# Altium footprint library Fedor's_pcb.PcbLib: 174 footprints (part 12 of 14)
Each footprint in its own frame and in the unit in brackets; x right, y up, seen from the top. Pads: shape width x height; smd on the part's side, far side on the other; paste and mask are expansions set on the pad; w line width, h text height; cw(c..) or ccw(c..) is an arc to the next point about the centre after c.
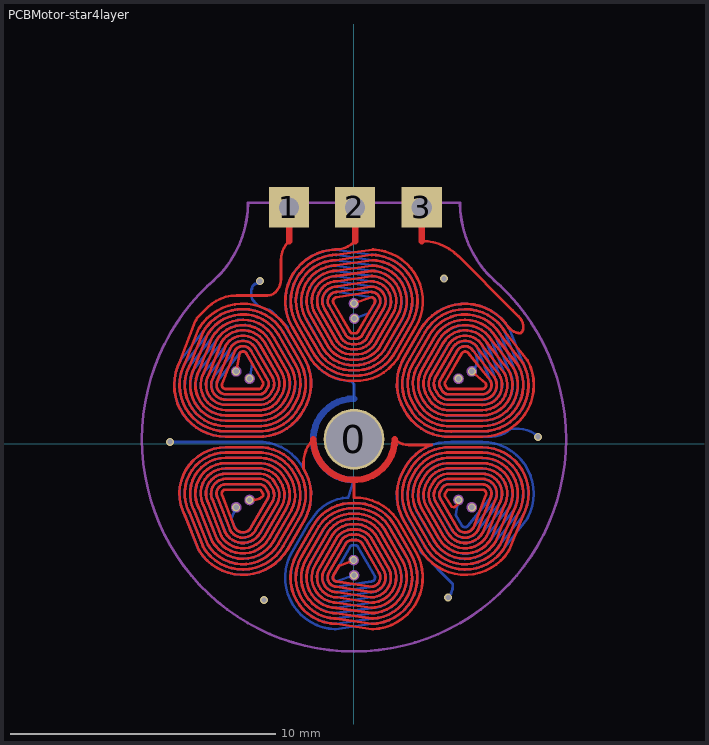
[diagram p11: the footprint, top view; thin cyan lines are the x and y axes]

## PCBMotor-star4layer [mil]
pads (4):
  round 90.55 hole 82.68 mask+3.54: 0(0.51,6.68)
  rect 60x60 hole 30: 1(-96,351) 2(2,351) 3(101,351)
via -154.57,96.62 diameter 11.81 hole 7.87
via -174.37,107.48 diameter 11.81 hole 7.87
via 155.62,96.63 diameter 11.81 hole 7.87
via 175.42,107.48 diameter 11.81 hole 7.87
via 1.08,185.92 diameter 11.81 hole 7.87
via 0.58,208.5 diameter 11.81 hole 7.87
via 134.03,245.17 diameter 11.81 hole 7.87
via -139.2,241.51 diameter 11.81 hole 7.87
via 273.82,10.38 diameter 11.81 hole 7.87
via -272.77,2.82 diameter 11.81 hole 7.87
via 140.25,-228.31 diameter 11.81 hole 7.87
via -132.98,-231.97 diameter 11.81 hole 7.87
via 0.47,-195.3 diameter 11.81 hole 7.87
via -0.03,-172.72 diameter 11.81 hole 7.87
via -174.37,-94.28 diameter 11.81 hole 7.87
via -154.57,-83.43 diameter 11.81 hole 7.87
via 175.42,-94.28 diameter 11.81 hole 7.87
via 155.62,-83.42 diameter 11.81 hole 7.87
Top Layer:
  lines w3.94: -229.57,-95.55 -229.46,-95.76 ; -229.49,108.89 -229.38,109.1 ; -202.24,-79.92 ccw(c0.51,6.69) -202,-80.49 ; -202.15,93.26 cw(c0.59,6.65) -201.91,93.83 ; -174.37,107.48 -169.13,134.74 cw(c-164.41,131.18) -159.3,134.13 -134.63,91.36 cw(c-138.04,89.39) -134.66,87.37 ccw(c0.52,6.6) -135.83,85.38 ccw(c0.52,6.6) -136.98,83.36 cw(c-140.41,85.28) -140.41,81.35 -189.79,81.35 cw(c-189.79,87.25) -195.23,89.56 -176.1,138.55 cw(c0.59,6.65) -175.69,139.1 cw(c-164.41,131.18) -152.48,138.07 -126.72,93.34 cw(c-138.04,89.39) -129.05,81.45 cw(c-140.41,85.28) -138.17,73.51 -189.79,73.51 cw(c-189.79,87.25) -203.13,90.57 cw(c-197.4,89.14) -202.9,91.29 -183.41,141.21 cw(c-177.91,139.06) -183.02,142.03 cw(c-164.41,131.18) -145.75,141.93 -119.5,96.98 cw(c-138.04,89.39) -121.98,77.41 cw(c-140.41,85.28) -137.78,65.41 -189.79,65.41 cw(c-189.79,87.25) -208.66,98.26 ccw(c-213.76,101.24) -208.26,99.09 -190.21,145.31 cw(c-184.71,143.16) -189.8,146.16 cw(c-164.41,131.18) -188.52,148.13 cw(c0.52,6.6) -187.31,149.74 cw(c-164.41,131.18) -138.88,145.91 -112.84,100.74 cw(c-138.04,89.39) -115.38,73.56 ; -154.57,-83.43 -149.09,-83.43 ccw(c-149.09,-62.67) -134.41,-77.35 ccw(c-138.13,-76.05) -134.75,-74.03 cw(c0.44,6.74) -135.92,-72.03 cw(c0.44,6.74) -137.06,-70.02 ccw(c-140.5,-71.94) -140.5,-68 -189.88,-68 ccw(c-189.88,-73.91) -195.32,-76.21 -176.19,-125.21 ccw(c0.51,6.69) -175.77,-125.76 ccw(c-164.5,-117.84) -152.56,-124.72 -126.8,-80 ccw(c-138.13,-76.05) -129.14,-68.11 ccw(c-140.5,-71.94) -138.26,-60.16 -189.88,-60.16 ccw(c-189.88,-73.91) -203.22,-77.22 ccw(c-197.49,-75.8) -202.99,-77.95 -202.22,-79.91 -202,-80.49 ; -115.52,-60.13 ccw(c0.44,6.74) -115.47,-60.22 ; -115.43,73.47 cw(c0.53,6.6) -115.38,73.56 ; -115.41,-60.31 cw(c0.44,6.74) -115.47,-60.22 ; -115.33,73.65 ccw(c0.53,6.6) -115.38,73.56 ; -95.85,301.17 ccw(c-66.59,271.92) -107.97,271.92 -107.97,266.17 -107.97,244.49 cw(c-135.28,244.49) -115.97,225.17 cw(c-128.04,237.24) -128.04,220.17 -173.97,220.17 ccw(c-173.97,159.46) -216.9,202.39 -232.64,186.65 -233.97,183.17 -234.98,182.17 -257.38,123.54 ccw(c-189.79,87.25) -189.79,10.54 -143.8,10.54 ccw(c-140.41,85.28) -74.47,49.93 ccw(c-138.04,89.39) -74.99,129.66 -97.95,169.53 ccw(c-164.41,131.18) -229.34,172.08 ccw(c-224.35,168.93) -229.83,171.13 -249.94,120.81 cw(c-255.42,123.01) -250.24,120.18 ccw(c-189.79,87.25) -252.43,115.79 ccw(c0.52,6.6) -253.87,112.41 ccw(c-189.79,87.25) -189.79,18.42 -143.71,18.42 ccw(c-140.41,85.28) -81.3,53.87 ccw(c-138.04,89.39) -81.76,125.65 -104.82,165.54 ccw(c-164.41,131.18) -218.13,174.14 ccw(c0.52,6.6) -220.37,171.19 -222.94,167.29 ccw(c-218.01,164.04) -223.49,166.23 -243.48,116.21 cw(c-248.97,118.4) -243.74,115.65 ccw(c-189.79,87.25) -244.9,113.32 ccw(c0.52,6.6) -246.86,108.71 ccw(c-189.79,87.25) -189.79,26.29 -137.22,26.29 ccw(c-140.41,85.28) -88.11,57.8 ccw(c-138.04,89.39) -85.34,116.1 -111.6,161.64 ccw(c-164.41,131.18) -211.51,169.9 ccw(c0.52,6.6) -214.53,165.9 -215.79,163.98 ccw(c-210.86,160.73) -216.35,162.92 -236.39,112.79 cw(c-241.87,114.98) -236.66,112.2 ccw(c-189.79,87.25) -237.97,109.57 ccw(c0.52,6.6) -239.33,106.34 ccw(c-189.79,87.25) -189.79,34.16 -137.33,34.16 ccw(c-140.41,85.28) -94.93,61.74 ccw(c-138.04,89.39) -92.21,112.25 -118.55,157.61 ccw(c-164.41,131.18) -205.44,164.63 ccw(c0.52,6.6) -207.62,161.74 ccw(c-164.41,131.18) -209.15,159.46 ccw(c-204.15,156.3) -209.64,158.5 -229.25,109.43 cw(c-234.73,111.63) -229.54,108.81 ccw(c-189.79,87.25) -231,105.88 ccw(c0.52,6.6) -231.83,103.9 ccw(c-189.79,87.25) -189.79,42.03 -137.43,42.03 ccw(c-140.41,85.28) -101.74,65.68 ccw(c-138.04,89.39) -99.08,108.41 -125.44,153.63 ccw(c-164.41,131.18) -199.45,159.38 ccw(c0.52,6.6) -200.86,157.51 ccw(c-164.41,131.18) -202.6,154.93 ccw(c-197.58,151.81) -203.07,154 -222.54,105.29 cw(c-228.02,107.48) -222.8,104.72 ccw(c-189.79,87.25) -223.74,102.81 ccw(c0.52,6.6) -224.59,100.82 ccw(c-189.79,87.25) -189.79,49.91 -137.54,49.91 ccw(c-140.41,85.28) -108.56,69.62 ccw(c-138.04,89.39) -105.96,104.57 -132.04,149.85 ccw(c-164.41,131.18) -193.58,154.54 ccw(c0.52,6.6) -194.88,152.83 -195.87,151.33 ccw(c-190.95,148.07) -196.45,150.22 -215.03,102.61 cw(c-220.53,104.76) -215.4,101.84 ccw(c-189.79,87.25) -216.52,99.67 ccw(c0.52,6.6) -217.31,97.81 ccw(c-189.79,87.25) -189.79,57.78 -137.65,57.78 ccw(c-140.41,85.28) -115.38,73.56 ; -59.86,6.72 ccw(c-24.37,-28.77) -74.56,-28.77 -74.56,-36.59 cw(c-138.13,-76.05) -75.07,-116.32 -98.03,-156.19 cw(c-164.5,-117.84) -229.43,-158.74 cw(c-224.43,-155.59) -229.92,-157.78 -250.03,-107.47 ccw(c-255.51,-109.66) -250.32,-106.84 cw(c-189.88,-73.91) -252.52,-102.45 cw(c0.44,6.74) -253.95,-99.06 cw(c-189.88,-73.91) -189.88,-5.08 -143.79,-5.08 cw(c-140.5,-71.94) -81.38,-40.53 cw(c-138.13,-76.05) -81.85,-112.31 -104.9,-152.2 cw(c-164.5,-117.84) -218.22,-160.8 cw(c0.44,6.74) -220.45,-157.84 -223.02,-153.94 cw(c-218.09,-150.7) -223.57,-152.89 -243.57,-102.87 ccw(c-249.05,-105.06) -243.83,-102.31 cw(c-189.88,-73.91) -244.99,-99.98 cw(c0.44,6.74) -246.94,-95.37 cw(c-189.88,-73.91) -189.88,-12.94 -137.31,-12.94 cw(c-140.5,-71.94) -88.19,-44.46 cw(c-138.13,-76.05) -85.42,-102.76 -111.68,-148.3 cw(c-164.5,-117.84) -211.6,-156.55 cw(c0.44,6.74) -214.61,-152.56 -215.88,-150.64 cw(c-210.95,-147.39) -216.43,-149.58 -236.47,-99.44 ccw(c-241.95,-101.64) -236.74,-98.86 cw(c-189.88,-73.91) -238.05,-96.22 cw(c0.44,6.74) -239.42,-93 cw(c-189.88,-73.91) -189.88,-20.82 -137.41,-20.82 cw(c-140.5,-71.94) -95.01,-48.4 cw(c-138.13,-76.05) -92.29,-98.91 -118.64,-144.26 cw(c-164.5,-117.84) -205.52,-151.28 cw(c0.44,6.74) -207.7,-148.4 cw(c-164.5,-117.84) -209.23,-146.12 cw(c-204.24,-142.96) -209.72,-145.15 -229.33,-96.09 ccw(c-234.82,-98.28) -229.62,-95.47 cw(c-189.88,-73.91) -231.08,-92.53 cw(c0.44,6.74) -231.92,-90.56 cw(c-189.88,-73.91) -189.88,-28.69 -137.51,-28.69 cw(c-140.5,-71.94) -101.83,-52.34 cw(c-138.13,-76.05) -99.17,-95.07 -125.52,-140.28 cw(c-164.5,-117.84) -199.54,-146.03 cw(c0.44,6.74) -200.95,-144.17 cw(c-164.5,-117.84) -202.68,-141.58 cw(c-197.67,-138.47) -203.15,-140.66 -222.62,-91.95 ccw(c-228.1,-94.14) -222.89,-91.38 cw(c-189.88,-73.91) -223.83,-89.47 cw(c0.44,6.74) -224.67,-87.48 cw(c-189.88,-73.91) -189.88,-36.56 -137.62,-36.57 cw(c-140.5,-71.94) -108.65,-56.28 cw(c-138.13,-76.05) -106.04,-91.23 -132.13,-136.51 cw(c-164.5,-117.84) -193.67,-141.2 cw(c0.44,6.74) -194.96,-139.48 -195.95,-137.99 cw(c-191.03,-134.73) -196.53,-136.87 -215.12,-89.27 ccw(c-220.62,-91.42) -215.49,-88.5 cw(c-189.88,-73.91) -216.6,-86.33 cw(c0.44,6.74) -217.39,-84.47 cw(c-189.88,-73.91) -189.88,-44.44 -137.74,-44.44 cw(c-140.5,-71.94) -115.47,-60.22 ; -31.3,288.18 -27.15,288.42 ; -26.03,-243.74 -25.79,-243.76 ; -25.89,256.94 -25.66,256.96 ; -25.76,225.46 cw(c0.6,6.57) -25.15,225.53 ; -0.03,-172.72 -21.17,-180.78 -30.04,-195.59 ccw(c-24.92,-198.55) -25.65,-204.41 26.35,-212.34 ccw(c0.47,6.63) 27.04,-212.26 ccw(c25.81,-198.53) 37.74,-191.64 11.89,-146.97 ccw(c2.8,-154.8) 0.42,-143.04 ccw(c-1.94,-154.8) -11.02,-146.97 -36.83,-191.67 ccw(c-24.92,-198.55) -28.72,-211.76 ccw(c-27.09,-206.08) -27.98,-211.92 -25.89,-212.24 ; 0.03,-53.83 0.41,-54.21 0.41,-80.01 cw(c2.8,-154.8) 69.21,-120.33 92.26,-160.14 cw(c25.81,-198.53) 28.77,-275.21 cw(c28.54,-269.31) 27.69,-275.16 -25.93,-267.42 ccw(c-26.77,-273.26) -26.63,-267.36 cw(c-24.92,-198.55) -31.53,-267.06 cw(c0.39,6.6) -35.18,-266.61 cw(c-24.92,-198.55) -84.54,-164.13 -61.49,-124.22 cw(c-1.94,-154.8) 0.42,-87.89 cw(c2.8,-154.8) 62.34,-124.19 85.36,-164.1 cw(c25.81,-198.53) 36.16,-266.54 cw(c0.39,6.6) 32.48,-266.99 27.82,-267.27 cw(c27.47,-261.37) 26.63,-267.22 -26.69,-259.52 ccw(c-27.54,-265.37) -27.3,-259.47 cw(c-24.92,-198.55) -29.9,-259.31 cw(c0.39,6.6) -34.87,-258.7 cw(c-24.92,-198.55) -77.72,-168.06 -51.44,-122.54 cw(c-1.94,-154.8) 0.42,-95.76 cw(c2.8,-154.8) 52.29,-122.51 78.6,-168.02 cw(c25.81,-198.53) 35.79,-258.68 cw(c0.39,6.6) 30.82,-259.29 28.52,-259.43 cw(c28.18,-253.53) 27.33,-259.38 -26.11,-251.66 ccw(c-26.95,-257.51) -26.75,-251.61 cw(c-24.92,-198.55) -29.69,-251.42 cw(c0.39,6.6) -33.16,-251 cw(c-24.92,-198.55) -70.9,-172 -44.67,-126.56 cw(c-1.94,-154.8) 0.42,-103.64 cw(c2.8,-154.8) 45.52,-126.54 71.63,-172.03 cw(c25.81,-198.53) 34.26,-250.78 cw(c0.39,6.6) 30.67,-251.23 cw(c25.81,-198.53) 27.94,-251.41 cw(c27.7,-245.51) 26.85,-251.35 -25.44,-243.81 ccw(c-26.28,-249.65) -26.13,-243.75 cw(c-24.92,-198.55) -29.4,-243.54 cw(c0.39,6.6) -31.52,-243.28 cw(c-24.92,-198.55) -64.08,-175.94 -37.9,-130.59 cw(c-1.94,-154.8) 0.42,-111.51 cw(c2.8,-154.8) 38.76,-130.57 64.74,-176 cw(c25.81,-198.53) 32.71,-242.97 cw(c0.39,6.6) 30.39,-243.26 cw(c25.81,-198.53) 27.28,-243.47 cw(c27.09,-237.57) 26.25,-243.42 -25.67,-235.92 ccw(c-26.52,-241.77) -26.3,-235.87 cw(c-24.92,-198.55) -28.42,-235.73 cw(c0.39,6.6) -30.57,-235.46 cw(c-24.92,-198.55) -57.27,-179.87 -31.14,-134.62 cw(c-1.94,-154.8) 0.42,-119.38 cw(c2.8,-154.8) 31.99,-134.6 58.17,-179.83 cw(c25.81,-198.53) 31.45,-235.47 cw(c0.39,6.6) 29.32,-235.74 27.53,-235.85 cw(c27.17,-229.95) 26.28,-235.79 -24.24,-228.08 ccw(c-25.13,-233.92) -25.1,-228.02 cw(c-24.92,-198.55) -27.53,-227.9 cw(c0.39,6.6) -29.53,-227.65 cw(c-24.92,-198.55) -50.45,-183.81 -24.38,-138.66 cw(c-1.94,-154.8) 0.43,-127.26 ; 0.32,-127.26 ccw(c0.39,6.6) 0.43,-127.26 ; 0.46,140.46 cw(c0.53,6.6) 0.56,140.46 ; 0.53,-127.26 cw(c0.39,6.6) 0.43,-127.26 ; 0.58,208.5 26.68,217.59 cw(c25.95,211.73) 31.06,208.78 6.35,166.03 cw(c2.94,168) 2.88,164.06 ccw(c0.53,6.6) 0.57,164.08 ccw(c0.53,6.6) -1.75,164.06 cw(c-1.8,168) -5.21,166.03 -29.9,208.79 cw(c-24.79,211.75) -25.51,217.61 26.48,225.54 cw(c0.6,6.57) 27.17,225.46 cw(c25.95,211.73) 37.88,204.84 12.02,160.17 cw(c2.94,168) 0.56,156.24 cw(c-1.8,168) -10.88,160.17 -36.69,204.87 cw(c-24.79,211.75) -28.59,224.96 cw(c-26.96,219.28) -27.85,225.12 25.13,233.2 cw(c26.02,227.36) 26.04,233.27 cw(c25.95,211.73) 44.59,200.95 18.78,155.73 cw(c2.94,168) 0.6,148.1 cw(c-1.8,168) -17.69,155.78 -43.7,200.83 cw(c-24.79,211.75) -24.69,233.59 ccw(c-24.66,239.49) -23.77,233.65 25.28,241.14 cw(c26.17,235.3) 26.23,241.2 cw(c25.95,211.73) 28.57,241.09 cw(c0.53,6.6) 30.57,240.84 cw(c25.95,211.73) 51.46,196.98 25.37,151.84 cw(c2.94,168) 0.56,140.46 ; 0.66,140.46 ccw(c0.53,6.6) 0.56,140.46 ; 2.57,301.17 1.83,300.43 cw(c-27.15,329.41) -27.15,288.42 ; 61.05,6.72 ccw(c81.68,27.35) 81.68,-1.83 116.03,-1.83 ; 101,301.17 cw(c101,223.84) 155.68,278.52 236.03,198.17 244.96,189.24 cw(c227.89,172.17) 252.03,172.17 cw(c242.37,172.17) 249.2,165.34 248.03,164.17 cw(c248.03,186.81) 232.02,170.8 229.61,173.22 ; 115.48,-1.83 ccw(c141.54,-71.96) 75.6,-36.61 ccw(c139.16,-76.07) 76.11,-116.34 99.07,-156.21 ccw(c165.54,-117.86) 230.47,-158.76 ccw(c225.47,-155.61) 230.95,-157.81 251.06,-107.5 cw(c256.55,-109.69) 251.36,-106.86 ccw(c190.92,-73.93) 253.55,-102.47 ccw(c0.6,6.72) 254.99,-99.09 ccw(c190.92,-73.93) 190.92,-5.1 144.83,-5.1 ccw(c141.54,-71.96) 82.42,-40.55 ccw(c139.16,-76.07) 82.88,-112.33 105.94,-152.22 ccw(c165.54,-117.86) 219.26,-160.83 ; 116.42,73.59 cw(c0.53,6.6) 116.47,73.5 ; 116.45,-60.33 ccw(c0.6,6.72) 116.5,-60.24 ; 116.52,73.41 ccw(c0.53,6.6) 116.47,73.5 ; 116.55,-60.15 cw(c0.6,6.72) 116.5,-60.24 ; 154.06,-84.62 cw(c156.28,-85.9) 155.62,-83.42 156.28,-85.9 153.81,-90.18 cw(c146.23,-85.81) 148.49,-94.26 145.59,-93.61 135.75,-78.04 cw(c139.16,-76.07) 135.78,-74.05 ccw(c0.6,6.72) 136.96,-72.06 ccw(c0.6,6.72) 138.1,-70.05 cw(c141.54,-71.96) 141.54,-68.03 190.92,-68.03 cw(c190.92,-73.93) 196.35,-76.24 177.23,-125.23 cw(c0.53,6.67) 176.81,-125.78 cw(c165.54,-117.86) 153.6,-124.75 127.84,-80.02 cw(c139.16,-76.07) 130.18,-68.13 cw(c141.54,-71.96) 139.3,-60.19 190.92,-60.19 cw(c190.92,-73.93) 204.26,-77.25 cw(c198.52,-75.82) 204.03,-77.97 184.54,-127.89 cw(c179.04,-125.74) 184.14,-128.71 cw(c165.54,-117.86) 146.88,-128.62 120.62,-83.66 cw(c139.16,-76.07) 123.1,-64.1 cw(c141.54,-71.96) 138.9,-52.09 190.92,-52.09 cw(c190.92,-73.93) 209.78,-84.94 ccw(c214.88,-87.92) 209.38,-85.77 191.33,-131.99 cw(c185.83,-129.84) 190.92,-132.84 cw(c165.54,-117.86) 189.65,-134.81 cw(c0.6,6.72) 188.43,-136.42 cw(c165.54,-117.86) 140,-132.59 113.96,-87.42 cw(c139.16,-76.07) 116.5,-60.24 ; 175.42,107.48 196.33,89.45 cw(c190.89,87.15) 190.88,81.24 141.5,81.27 cw(c141.51,85.21) 138.07,83.29 ccw(c0.53,6.6) 136.93,85.3 ccw(c0.53,6.6) 135.76,87.3 cw(c139.14,89.31) 135.73,91.28 160.42,134.05 cw(c165.53,131.1) 170.25,134.65 203.11,93.59 cw(c0.54,6.52) 203.38,92.95 cw(c190.89,87.15) 190.88,73.37 139.27,73.43 cw(c141.51,85.21) 130.14,81.39 cw(c139.14,89.31) 127.82,93.26 153.63,137.97 cw(c165.53,131.1) 175.07,140.99 cw(c170.97,136.74) 175.58,140.43 209.07,98.59 cw(c204.46,94.9) 209.58,97.83 cw(c190.89,87.15) 190.87,65.61 138.81,65.35 cw(c141.51,85.21) 123.1,77.28 cw(c139.14,89.31) 120.61,96.97 146.62,142.02 cw(c165.53,131.1) 184.5,141.93 ccw(c189.62,144.85) 185.01,141.16 216.02,102.43 cw(c211.41,98.74) 216.55,101.64 cw(c190.89,87.15) 217.62,99.56 cw(c0.53,6.6) 218.41,97.7 cw(c190.89,87.15) 190.87,57.68 138.73,57.71 cw(c141.51,85.21) 116.47,73.5 ; 176.92,138.79 cw(c0.54,6.52) 177.29,138.3 ; 203.03,-80.51 ccw(c0.53,6.67) 203.28,-79.94 ; 204.12,154.65 204.25,154.45 ; 219.26,-160.82 ccw(c0.6,6.72) 221.49,-157.87 224.06,-153.97 ccw(c219.13,-150.72) 224.61,-152.91 244.61,-102.89 cw(c250.09,-105.08) 244.86,-102.33 ccw(c190.92,-73.93) 246.03,-100 ccw(c0.6,6.72) 247.98,-95.39 ccw(c190.92,-73.93) 190.92,-12.97 138.35,-12.97 ccw(c141.54,-71.96) 89.23,-44.49 ccw(c139.16,-76.07) 86.46,-102.78 112.72,-148.32 ccw(c165.54,-117.86) 212.63,-156.58 ccw(c0.6,6.72) 215.65,-152.58 216.92,-150.66 ccw(c211.98,-147.41) 217.47,-149.6 237.51,-99.47 cw(c242.99,-101.66) 237.78,-98.88 ccw(c190.92,-73.93) 239.09,-96.25 ccw(c0.6,6.72) 240.46,-93.03 ccw(c190.92,-73.93) 190.92,-20.84 138.45,-20.84 ccw(c141.54,-71.96) 96.05,-48.42 ccw(c139.16,-76.07) 93.33,-98.93 119.67,-144.29 ccw(c165.54,-117.86) 206.56,-151.31 ccw(c0.6,6.72) 208.74,-148.42 ccw(c165.54,-117.86) 210.27,-146.14 ccw(c205.28,-142.99) 210.76,-145.18 230.37,-96.12 cw(c235.85,-98.31) 230.66,-95.49 ccw(c190.92,-73.93) 232.12,-92.56 ccw(c0.6,6.72) 232.96,-90.58 ccw(c190.92,-73.93) 190.92,-28.71 138.55,-28.71 ccw(c141.54,-71.96) 102.87,-52.36 ccw(c139.16,-76.07) 100.21,-95.09 126.56,-140.31 ccw(c165.54,-117.86) 200.58,-146.06 ccw(c0.6,6.72) 201.98,-144.2 ccw(c165.54,-117.86) 203.72,-141.61 ccw(c198.7,-138.49) 204.19,-140.68 223.66,-91.97 cw(c229.14,-94.16) 223.92,-91.4 ccw(c190.92,-73.93) 224.86,-89.49 ccw(c0.6,6.72) 225.71,-87.5 ccw(c190.92,-73.93) 190.92,-36.59 138.66,-36.59 ccw(c141.54,-71.96) 109.68,-56.3 ccw(c139.16,-76.07) 107.08,-91.25 133.16,-136.53 ccw(c165.54,-117.86) 194.71,-141.22 ccw(c0.6,6.72) 196,-139.51 196.99,-138.01 ccw(c192.07,-134.75) 197.57,-136.9 216.15,-89.29 cw(c221.66,-91.44) 216.52,-88.52 ccw(c190.92,-73.93) 217.64,-86.35 ccw(c0.6,6.72) 218.43,-84.49 ccw(c190.92,-73.93) 190.92,-44.46 138.77,-44.46 ccw(c141.54,-71.96) 116.5,-60.24 ; 228.47,174.95 230.75,171.48 ccw(c165.53,131.1) 99.1,169.45 76.1,129.62 ccw(c139.14,89.31) 75.55,49.89 ccw(c141.51,85.21) 144.86,10.46 190.86,10.41 ccw(c190.89,87.15) 258.77,122.93 ccw(c253.55,120.18) 258.19,123.83 224.67,166.4 cw(c229.31,170.06) 224.27,166.98 ccw(c165.53,131.1) 221.57,171.07 ccw(c0.53,6.6) 219.35,174.01 ccw(c165.53,131.1) 105.92,165.51 82.88,125.6 ccw(c139.14,89.31) 82.37,53.82 ccw(c141.51,85.21) 144.77,18.34 190.84,18.36 ccw(c190.89,87.15) 254.95,112.19 ccw(c0.53,6.6) 253.51,115.61 251.41,119.78 ccw(c246.14,117.13) 250.78,120.79 217.45,163.11 cw(c222.09,166.77) 217.1,163.62 ccw(c165.53,131.1) 215.66,165.79 ccw(c0.53,6.6) 212.65,169.78 ccw(c165.53,131.1) 112.73,161.58 86.45,116.05 ccw(c139.14,89.31) 89.19,57.76 ccw(c141.51,85.21) 138.29,26.21 190.86,26.18 ccw(c190.89,87.15) 247.96,108.58 ccw(c0.53,6.6) 246.01,113.19 244.98,115.25 ccw(c239.7,112.6) 244.34,116.25 210.94,158.68 cw(c215.58,162.33) 210.57,159.2 ccw(c165.53,131.1) 208.94,161.66 ccw(c0.53,6.6) 206.84,164.45 ccw(c165.53,131.1) 119.55,157.64 93.32,112.2 ccw(c139.14,89.31) 96.01,61.69 ccw(c141.51,85.21) 138.39,34.09 190.84,34.22 ccw(c190.89,87.15) 240.36,105.96 ccw(c0.53,6.6) 238.95,109.29 ccw(c190.89,87.15) 237.74,111.75 ccw(c232.51,109) 237.15,112.66 204.47,154.17 cw(c209.11,157.83) 204.08,154.74 ccw(c165.53,131.1) 202.26,157.47 ccw(c0.53,6.6) 200.97,159.18 ccw(c165.53,131.1) 126.37,153.7 100.19,108.36 ccw(c139.14,89.31) 102.83,65.63 ccw(c141.51,85.21) 138.5,41.96 190.84,42.18 ccw(c190.89,87.15) 232.82,103.4 ccw(c0.53,6.6) 231.91,105.55 ccw(c190.89,87.15) 230.54,108.35 ccw(c225.33,105.56) 229.97,109.22 197.52,150.43 cw(c202.16,154.09) 197.16,150.95 ccw(c165.53,131.1) 195.98,152.71 ccw(c0.53,6.6) 194.68,154.44 ccw(c165.53,131.1) 133.19,149.77 107.06,104.51 ccw(c139.14,89.31) 109.65,69.56 ccw(c141.51,85.21) 138.61,49.83 190.87,49.78 ccw(c190.89,87.15) 225.7,100.73 ccw(c0.53,6.6) 224.86,102.71 224.06,104.32 ccw(c218.78,101.68) 223.39,105.37 191.45,145.27 cw(c196.06,148.96) 190.97,145.98 ccw(c165.53,131.1) 189.65,148.03 ccw(c0.53,6.6) 188.43,149.64 ccw(c165.53,131.1) 140.01,145.83 113.94,100.67 ccw(c139.14,89.31) 116.47,73.5 ; 230.5,-95.78 230.61,-95.57 ; -202,-80.49 -183.5,-127.86 ccw(c-178,-125.72) -183.1,-128.69 ccw(c-164.5,-117.84) -145.84,-128.59 -119.58,-83.64 ccw(c-138.13,-76.05) -122.06,-64.07 ccw(c-140.5,-71.94) -137.86,-52.07 -189.88,-52.07 ccw(c-189.88,-73.91) -208.74,-84.92 cw(c-213.84,-87.89) -208.34,-85.75 -190.29,-131.97 ccw(c-184.79,-129.82) -189.88,-132.82 ccw(c-164.5,-117.84) -188.61,-134.79 ccw(c0.44,6.74) -187.39,-136.4 ccw(c-164.5,-117.84) -138.97,-132.56 -112.92,-87.39 ccw(c-138.13,-76.05) -115.47,-60.22 ; -27.15,288.42 ccw(c-24.79,211.75) -91.22,173.39 -68.23,133.56 ccw(c-1.8,168) 0.55,93.21 ccw(c2.94,168) 69.35,133.53 92.39,173.34 ccw(c25.95,211.73) 28.9,288.41 ccw(c28.67,282.51) 27.83,288.36 -25.8,280.62 cw(c-26.64,286.46) -26.49,280.56 ccw(c-24.79,211.75) -31.39,280.26 ccw(c0.53,6.6) -35.04,279.81 ccw(c-24.79,211.75) -84.4,177.33 -61.36,137.42 ccw(c-1.8,168) 0.55,101.09 ccw(c2.94,168) 62.48,137.39 85.5,177.3 ccw(c25.95,211.73) 36.29,279.74 ccw(c0.53,6.6) 32.61,280.19 27.95,280.47 ccw(c27.61,274.57) 26.76,280.42 -26.56,272.72 cw(c-27.4,278.57) -27.17,272.67 ccw(c-24.79,211.75) -29.76,272.51 ccw(c0.53,6.6) -34.73,271.9 ccw(c-24.79,211.75) -77.59,181.26 -51.3,135.74 ccw(c-1.8,168) 0.55,108.96 ccw(c2.94,168) 52.42,135.71 78.73,181.22 ccw(c25.95,211.73) 35.93,271.88 ccw(c0.53,6.6) 30.96,272.49 28.66,272.63 ccw(c28.31,266.73) 27.47,272.58 -25.97,264.86 cw(c-26.81,270.71) -26.61,264.81 ccw(c-24.79,211.75) -29.55,264.62 ccw(c0.53,6.6) -33.02,264.2 ccw(c-24.79,211.75) -70.77,185.2 -44.53,139.76 ccw(c-1.8,168) 0.56,116.84 ccw(c2.94,168) 45.66,139.74 71.76,185.23 ccw(c25.95,211.73) 34.4,263.98 ccw(c0.53,6.6) 30.81,264.43 ccw(c25.95,211.73) 28.07,264.61 ccw(c27.83,258.71) 26.99,264.55 -25.3,257.01 cw(c-26.15,262.85) -25.99,256.95 ccw(c-24.79,211.75) -29.26,256.74 ccw(c0.53,6.6) -31.39,256.48 ccw(c-24.79,211.75) -63.95,189.14 -37.77,143.79 ccw(c-1.8,168) 0.56,124.71 ccw(c2.94,168) 38.89,143.77 64.87,189.2 ccw(c25.95,211.73) 32.84,256.17 ccw(c0.53,6.6) 30.53,256.46 ccw(c25.95,211.73) 27.42,256.67 ccw(c27.22,250.77) 26.38,256.62 -25.54,249.12 cw(c-26.38,254.97) -26.16,249.07 ccw(c-24.79,211.75) -28.28,248.93 ccw(c0.53,6.6) -30.43,248.66 ccw(c-24.79,211.75) -57.13,193.07 -31,147.82 ccw(c-1.8,168) 0.56,132.58 ccw(c2.94,168) 32.13,147.8 58.3,193.03 ccw(c25.95,211.73) 31.59,248.67 ccw(c0.53,6.6) 29.46,248.94 27.67,249.05 ccw(c27.31,243.15) 26.42,248.99 -24.1,241.28 cw(c-24.99,247.12) -24.96,241.22 ccw(c-24.79,211.75) -27.39,241.1 ccw(c0.53,6.6) -29.4,240.86 ccw(c-24.79,211.75) -50.31,197.01 -24.24,151.86 ccw(c-1.8,168) 0.56,140.46 ; -25.9,-212.26 ccw(c0.47,6.63) -25.28,-212.33 ; -25.89,-212.24 -25.28,-212.33 ; -25.28,-212.33 24.99,-220 ccw(c25.88,-214.16) 25.91,-220.07 ccw(c25.81,-198.53) 44.45,-187.75 18.65,-142.53 ccw(c2.8,-154.8) 0.47,-134.9 ccw(c-1.94,-154.8) -17.83,-142.58 -43.84,-187.63 ccw(c-24.92,-198.55) -24.82,-220.39 cw(c-24.79,-226.29) -23.9,-220.45 25.15,-227.94 ccw(c26.04,-222.1) 26.09,-228 ccw(c25.81,-198.53) 28.43,-227.89 ccw(c0.39,6.6) 30.44,-227.64 ccw(c25.81,-198.53) 51.33,-183.78 25.23,-138.64 ccw(c2.8,-154.8) 0.43,-127.26
  lines w9.84: -95.85,301.17 -95.85,351 ; 2.57,301.17 2.57,351 ; 101,301.17 101,351
  lines w10: -59.86,6.72 ccw(c0.6,6.72) 61.05,6.72
Mid-Layer 1:
  lines w3.94: -239.11,106.07 cw(c0.73,6.72) -237.7,109.41 cw(c-189.63,87.27) -236.49,111.87 cw(c-231.26,109.12) -235.9,112.78 -203.21,154.29 ccw(c-207.85,157.94) -202.82,154.86 cw(c-164.28,131.22) -201.01,157.59 cw(c0.73,6.72) -199.72,159.3 cw(c-164.28,131.22) -125.12,153.82 -98.93,108.48 cw(c-137.88,89.43) -101.57,65.75 cw(c-140.25,85.33) -137.25,42.08 -189.58,42.3 cw(c-189.63,87.27) -231.57,103.52 cw(c0.73,6.72) -230.66,105.67 cw(c-189.63,87.27) -229.29,108.47 cw(c-224.08,105.68) -228.72,109.34 -196.27,150.55 ccw(c-200.91,154.21) -195.91,151.07 cw(c-164.28,131.22) -194.73,152.83 cw(c0.73,6.72) -193.42,154.56 cw(c-164.28,131.22) -131.93,149.89 -105.81,104.63 cw(c-137.88,89.43) -108.39,69.68 cw(c-140.25,85.33) -137.36,49.95 -189.61,49.9 cw(c-189.63,87.27) -224.44,100.85 cw(c0.73,6.72) -223.61,102.83 -222.81,104.44 cw(c-217.52,101.8) -222.13,105.49 -190.2,145.39 ccw(c-194.81,149.08) -189.71,146.1 cw(c-164.28,131.22) -188.4,148.15 cw(c0.73,6.72) -187.18,149.76 cw(c-164.28,131.22) -138.75,145.95 -112.68,100.79 cw(c-137.88,89.43) -115.21,73.62 ; -239.11,106.08 ccw(c-189.63,87.27) -189.58,34.34 -137.14,34.2 ccw(c-140.25,85.33) -94.75,61.81 ccw(c-137.88,89.43) -92.06,112.32 -118.3,157.76 ccw(c-164.28,131.22) -205.58,164.57 ccw(c0.73,6.72) -207.69,161.78 ccw(c-164.28,131.22) -209.32,159.32 cw(c-214.33,162.45) -209.69,158.8 -243.09,116.37 ccw(c-238.45,112.72) -243.72,115.37 -244.76,113.31 ccw(c0.73,6.72) -246.71,108.7 ccw(c-189.63,87.27) -189.6,26.3 -137.03,26.33 ccw(c-140.25,85.33) -87.93,57.88 ccw(c-137.88,89.43) -85.19,116.17 -111.48,161.7 ccw(c-164.28,131.22) -211.39,169.9 ccw(c0.73,6.72) -214.41,165.91 ccw(c-164.28,131.22) -215.84,163.74 cw(c-220.84,166.89) -216.2,163.23 -249.52,120.91 ccw(c-244.88,117.25) -250.16,119.9 -252.25,115.73 ccw(c0.73,6.72) -253.7,112.31 ccw(c-189.63,87.27) -189.59,18.48 -143.51,18.46 ccw(c-140.25,85.33) -81.12,53.94 ccw(c-137.88,89.43) -81.62,125.72 -104.66,165.63 ccw(c-164.28,131.22) -218.1,174.13 ccw(c0.73,6.72) -220.31,171.19 ccw(c-164.28,131.22) -223.02,167.1 cw(c-228.06,170.18) -223.42,166.52 -256.93,123.95 ccw(c-252.29,120.3) -257.52,123.05 ccw(c-189.63,87.27) -189.61,10.53 -143.6,10.58 ccw(c-140.25,85.33) -74.29,50.01 ccw(c-137.88,89.43) -74.85,129.74 -97.84,169.57 ccw(c-164.28,131.22) -138.04,203.3 -139.75,204.29 cw(c-126.93,226.49) -151.7,219.86 cw(c-135.21,224.28) -149.99,232.81 -146.03,239.68 -139.2,241.51 ; -203.2,-141.25 -203.07,-141.45 ; -202.99,154.57 -202.86,154.77 ; -176.24,-125.1 ccw(c0.51,6.68) -175.87,-125.59 ; -174.37,-94.28 -195.28,-76.25 cw(c-189.84,-73.95) -189.83,-68.04 -140.45,-68.07 cw(c-140.46,-72.01) -137.02,-70.09 ccw(c0.52,6.6) -135.88,-72.1 ccw(c0.52,6.6) -134.71,-74.1 cw(c-138.09,-76.11) -134.68,-78.08 -159.37,-120.85 cw(c-164.48,-117.9) -169.19,-121.45 -202.06,-80.39 cw(c0.51,6.68) -202.33,-79.75 cw(c-189.84,-73.95) -189.83,-60.17 -138.22,-60.23 cw(c-140.46,-72.01) -129.09,-68.19 cw(c-138.09,-76.11) -126.77,-80.06 -152.58,-124.77 cw(c-164.48,-117.9) -174.02,-127.79 cw(c-169.92,-123.54) -174.53,-127.23 -208.02,-85.39 cw(c-203.41,-81.7) -208.53,-84.63 cw(c-189.84,-73.95) -189.82,-52.41 -137.76,-52.15 cw(c-140.46,-72.01) -122.05,-64.08 cw(c-138.09,-76.11) -119.56,-83.77 -145.57,-128.82 cw(c-164.48,-117.9) -183.44,-128.73 ccw(c-188.57,-131.65) -183.96,-127.96 -214.97,-89.23 cw(c-210.36,-85.54) -215.5,-88.44 cw(c-189.84,-73.95) -216.57,-86.36 cw(c0.52,6.6) -217.36,-84.5 cw(c-189.84,-73.95) -189.82,-44.48 -137.68,-44.51 cw(c-140.46,-72.01) -115.42,-60.3 ; -174.16,107.6 -191.52,95.72 -195.07,89.57 ; -132.98,-231.97 -127.98,-236.97 -120.05,-236.97 ccw(c-120.05,-219.9) -107.98,-231.97 ccw(c-126.11,-213.84) -100.47,-213.84 -100.47,-211.87 cw(c-24.92,-198.55) -91.36,-160.19 -68.36,-120.36 cw(c-1.94,-154.8) 0.41,-80.01 cw(c2.8,-154.8) 69.21,-120.33 92.26,-160.14 cw(c25.81,-198.53) 28.77,-275.21 cw(c28.54,-269.31) 27.69,-275.16 -25.93,-267.42 ccw(c-26.77,-273.26) -26.63,-267.36 cw(c-24.92,-198.55) -31.53,-267.06 cw(c0.39,6.6) -35.18,-266.61 cw(c-24.92,-198.55) -84.54,-164.13 -61.49,-124.22 cw(c-1.94,-154.8) 0.42,-87.89 cw(c2.8,-154.8) 62.34,-124.19 85.36,-164.1 cw(c25.81,-198.53) 36.16,-266.54 cw(c0.39,6.6) 32.48,-266.99 27.82,-267.27 cw(c27.47,-261.37) 26.63,-267.22 -26.69,-259.52 ccw(c-27.54,-265.37) -27.3,-259.47 cw(c-24.92,-198.55) -29.9,-259.31 cw(c0.39,6.6) -34.87,-258.7 cw(c-24.92,-198.55) -77.72,-168.06 -51.44,-122.54 cw(c-1.94,-154.8) 0.42,-95.76 cw(c2.8,-154.8) 52.29,-122.51 78.6,-168.02 cw(c25.81,-198.53) 35.79,-258.68 cw(c0.39,6.6) 30.82,-259.29 28.52,-259.43 cw(c28.18,-253.53) 27.33,-259.38 -26.11,-251.66 ccw(c-26.95,-257.51) -26.75,-251.61 cw(c-24.92,-198.55) -29.69,-251.42 cw(c0.39,6.6) -33.16,-251 cw(c-24.92,-198.55) -70.9,-172 -44.67,-126.56 cw(c-1.94,-154.8) 0.42,-103.64 cw(c2.8,-154.8) 45.52,-126.54 71.63,-172.03 cw(c25.81,-198.53) 34.26,-250.78 cw(c0.39,6.6) 30.67,-251.23 cw(c25.81,-198.53) 27.94,-251.41 cw(c27.7,-245.51) 26.85,-251.35 -25.44,-243.81 ccw(c-26.28,-249.65) -26.13,-243.75 cw(c-24.92,-198.55) -29.4,-243.54 cw(c0.39,6.6) -31.52,-243.28 cw(c-24.92,-198.55) -64.08,-175.94 -37.9,-130.59 cw(c-1.94,-154.8) 0.42,-111.51 cw(c2.8,-154.8) 38.76,-130.57 64.74,-176 cw(c25.81,-198.53) 32.71,-242.97 cw(c0.39,6.6) 30.39,-243.26 cw(c25.81,-198.53) 27.28,-243.47 cw(c27.09,-237.57) 26.25,-243.42 -25.67,-235.92 ccw(c-26.52,-241.77) -26.3,-235.87 cw(c-24.92,-198.55) -28.42,-235.73 cw(c0.39,6.6) -30.57,-235.46 cw(c-24.92,-198.55) -57.27,-179.87 -31.14,-134.62 cw(c-1.94,-154.8) 0.42,-119.38 cw(c2.8,-154.8) 31.99,-134.6 58.17,-179.83 cw(c25.81,-198.53) 31.45,-235.47 cw(c0.39,6.6) 29.32,-235.74 27.53,-235.85 cw(c27.17,-229.95) 26.28,-235.79 -24.24,-228.08 ccw(c-25.13,-233.92) -25.1,-228.02 cw(c-24.92,-198.55) -27.53,-227.9 cw(c0.39,6.6) -29.53,-227.65 cw(c-24.92,-198.55) -50.45,-183.81 -24.38,-138.66 cw(c-1.94,-154.8) 0.43,-127.26 ; -115.47,-60.21 ccw(c0.53,6.6) -115.42,-60.3 ; -115.37,-60.39 cw(c0.52,6.6) -115.42,-60.3 ; -115.26,73.53 cw(c0.73,6.72) -115.21,73.62 ; -115.16,73.7 ccw(c0.73,6.72) -115.21,73.62 ; -51.98,-23.51 -66.53,-31.91 -80.68,-28.12 ; -26.03,-243.74 -25.79,-243.76 ; 0.32,-127.26 ccw(c0.39,6.6) 0.43,-127.26 ; 0.47,-195.3 19.44,-204.39 26.54,-204.39 ; 0.52,140.46 cw(c0.66,6.6) 0.62,140.46 ; 0.53,-127.26 cw(c0.39,6.6) 0.43,-127.26 ; 0.58,208.5 -18.39,217.59 -25.49,217.59 ; 0.63,140.46 ccw(c2.99,168) 25.43,151.86 51.5,197.01 ccw(c25.97,211.75) 30.58,240.85 ccw(c0.66,6.6) 28.58,241.1 ccw(c25.97,211.75) 26.15,241.22 cw(c26.18,247.12) 25.29,241.28 -25.23,248.99 ccw(c-26.12,243.15) -26.48,249.05 -28.27,248.94 ccw(c0.66,6.6) -30.4,248.67 ccw(c-24.76,211.73) -57.12,193.03 -30.94,147.8 ccw(c-1.75,168) 0.63,132.58 ccw(c2.99,168) 32.19,147.82 58.32,193.07 ccw(c25.97,211.75) 31.62,248.66 ccw(c0.66,6.6) 29.47,248.93 ccw(c25.97,211.75) 27.35,249.07 cw(c27.57,254.97) 26.73,249.12 -25.19,256.62 ccw(c-26.04,250.77) -26.23,256.67 ccw(c-24.76,211.73) -29.34,256.46 ccw(c0.66,6.6) -31.66,256.17 ccw(c-24.76,211.73) -63.68,189.2 -37.7,143.77 ccw(c-1.75,168) 0.63,124.71 ccw(c2.99,168) 38.95,143.79 65.13,189.14 ccw(c25.97,211.75) 32.57,256.48 ccw(c0.66,6.6) 30.45,256.74 ccw(c25.97,211.75) 27.18,256.95 cw(c27.33,262.85) 26.49,257.01 -25.8,264.55 ccw(c-26.65,258.71) -26.88,264.61 ccw(c-24.76,211.73) -29.62,264.43 ccw(c0.66,6.6) -33.21,263.98 ccw(c-24.76,211.73) -70.57,185.23 -44.47,139.74 ccw(c-1.75,168) 0.63,116.84 ccw(c2.99,168) 45.72,139.76 71.95,185.2 ccw(c25.97,211.75) 34.21,264.2 ccw(c0.66,6.6) 30.74,264.62 ccw(c25.97,211.75) 27.8,264.81 cw(c28,270.71) 27.16,264.86 -26.28,272.58 ccw(c-27.13,266.73) -27.47,272.63 -29.77,272.49 ccw(c0.66,6.6) -34.74,271.88 ccw(c-24.76,211.73) -77.54,181.22 -51.24,135.71 ccw(c-1.75,168) 0.63,108.96 ccw(c2.99,168) 52.49,135.74 78.77,181.26 ccw(c25.97,211.75) 35.92,271.9 ccw(c0.66,6.6) 30.95,272.51 ccw(c25.97,211.75) 28.36,272.67 cw(c28.59,278.57) 27.74,272.72 -25.58,280.42 ccw(c-26.42,274.57) -26.77,280.47 -31.43,280.19 ccw(c0.66,6.6) -35.11,279.74 ccw(c-24.76,211.73) -84.31,177.3 -61.29,137.39 ccw(c-1.75,168) 0.64,101.09 ccw(c2.99,168) 62.54,137.42 85.59,177.33 ccw(c25.97,211.75) 36.23,279.81 ccw(c0.66,6.6) 32.58,280.26 ccw(c25.97,211.75) 27.68,280.56 cw(c27.83,286.46) 26.98,280.62 -26.64,288.36 ccw(c-27.49,282.51) -27.71,288.41 ccw(c-24.76,211.73) -91.21,173.34 -68.16,133.53 ccw(c-1.75,168) 0.64,93.21 ccw(c2.99,168) 69.41,133.56 92.41,173.39 ccw(c25.97,211.75) 101.52,225.07 101.52,227.04 cw(c127.16,227.04) 109.03,245.17 cw(c121.1,233.1) 121.1,250.17 129.03,250.17 134.03,245.17 ; 0.73,140.46 ccw(c0.66,6.6) 0.62,140.46 ; 26.84,256.96 27.08,256.94 ; 52.87,36.91 79.54,42.56 cw(c121.92,84.94) 61.99,84.94 61.99,105.27 ; 116.21,-60.5 ccw(c0.32,6.48) 116.26,-60.42 ; 116.31,-60.33 cw(c0.32,6.48) 116.26,-60.42 ; 116.38,73.65 cw(c0.52,6.6) 116.43,73.56 ; 116.48,73.47 ccw(c0.52,6.6) 116.43,73.56 ; 140.25,-228.31 147.08,-226.48 151.04,-219.61 ccw(c136.26,-211.08) 152.75,-206.66 ccw(c127.98,-213.29) 140.8,-191.09 139.09,-190.1 cw(c165.33,-118.01) 98.89,-156.37 75.9,-116.54 cw(c138.93,-76.23) 75.34,-36.81 cw(c141.3,-72.13) 144.65,2.62 190.66,2.67 cw(c190.68,-74.07) 258.57,-109.85 cw(c253.34,-107.1) 257.98,-110.75 224.47,-153.32 ccw(c229.11,-156.98) 224.07,-153.9 cw(c165.33,-118.01) 221.36,-157.99 cw(c0.32,6.48) 219.15,-160.93 cw(c165.33,-118.01) 105.71,-152.43 82.67,-112.52 cw(c138.93,-76.23) 82.17,-40.74 cw(c141.3,-72.13) 144.56,-5.26 190.64,-5.28 cw(c190.68,-74.07) 254.75,-99.11 cw(c0.32,6.48) 253.3,-102.53 251.21,-106.7 cw(c245.93,-104.05) 250.57,-107.71 217.25,-150.03 ccw(c221.89,-153.69) 216.89,-150.54 cw(c165.33,-118.01) 215.46,-152.71 cw(c0.32,6.48) 212.45,-156.7 cw(c165.33,-118.01) 112.53,-148.5 86.24,-102.97 cw(c138.93,-76.23) 88.98,-44.68 cw(c141.3,-72.13) 138.08,-13.13 190.65,-13.1 cw(c190.68,-74.07) 247.76,-95.5 cw(c0.32,6.48) 245.81,-100.11 244.77,-102.17 cw(c239.5,-99.52) 244.14,-103.17 210.74,-145.6 ccw(c215.38,-149.25) 210.37,-146.12 cw(c165.33,-118.01) 208.74,-148.58 cw(c0.32,6.48) 206.63,-151.37 cw(c165.33,-118.01) 119.35,-144.56 93.11,-99.12 cw(c138.93,-76.23) 95.8,-48.61 cw(c141.3,-72.13) 138.19,-21 190.63,-21.14 cw(c190.68,-74.07) 240.16,-92.87 cw(c0.32,6.48) 238.75,-96.21 cw(c190.68,-74.07) 237.54,-98.67 cw(c232.31,-95.92) 236.95,-99.58 204.27,-141.09 ccw(c208.91,-144.74) 203.87,-141.66 cw(c165.33,-118.01) 202.06,-144.39 cw(c0.32,6.48) 200.77,-146.1 cw(c165.33,-118.01) 126.17,-140.62 99.98,-95.28 cw(c138.93,-76.23) 102.62,-52.55 cw(c141.3,-72.13) 138.3,-28.88 190.63,-29.1 cw(c190.68,-74.07) 232.62,-90.32 cw(c0.32,6.48) 231.71,-92.47 cw(c190.68,-74.07) 230.34,-95.27 cw(c225.13,-92.48) 229.77,-96.14 197.32,-137.35 ccw(c201.96,-141.01) 196.96,-137.87 cw(c165.33,-118.01) 195.78,-139.63 cw(c0.32,6.48) 194.47,-141.36 cw(c165.33,-118.01) 132.99,-136.69 106.86,-91.43 cw(c138.93,-76.23) 109.44,-56.48 cw(c141.3,-72.13) 138.41,-36.75 190.67,-36.7 cw(c190.68,-74.07) 225.49,-87.65 cw(c0.32,6.48) 224.66,-89.63 223.86,-91.24 cw(c218.57,-88.6) 223.18,-92.29 191.25,-132.19 ccw(c195.86,-135.88) 190.76,-132.9 cw(c165.33,-118.01) 189.45,-134.95 cw(c0.32,6.48) 188.23,-136.56 cw(c165.33,-118.01) 139.8,-132.75 113.73,-87.59 cw(c138.93,-76.23) 116.26,-60.42 ; 155.62,96.63 155.56,96.76 163.61,117.83 178.11,124.31 170.17,134.74 ccw(c165.46,131.18) 160.35,134.13 135.68,91.36 ccw(c139.09,89.39) 135.71,87.37 cw(c0.52,6.6) 136.88,85.38 cw(c0.52,6.6) 138.02,83.36 ccw(c141.46,85.28) 141.46,81.35 190.84,81.35 ccw(c190.84,87.25) 196.28,89.56 177.15,138.55 ccw(c0.46,6.65) 176.74,139.1 ccw(c165.46,131.18) 153.53,138.07 127.77,93.34 ccw(c139.09,89.39) 130.1,81.45 ccw(c141.46,85.28) 139.22,73.51 190.84,73.51 ccw(c190.84,87.25) 204.18,90.57 ccw(c198.45,89.14) 203.95,91.29 203.18,93.26 ; 175.22,-94.4 192.57,-82.52 196.12,-76.37 ; 200.5,159.37 cw(c0.52,6.6) 201.91,157.51 cw(c165.46,131.18) 203.65,154.93 cw(c198.63,151.81) 204.12,154 223.59,105.29 ccw(c229.07,107.48) 223.85,104.72 cw(c190.84,87.25) 224.79,102.81 cw(c0.52,6.6) 225.64,100.82 cw(c190.84,87.25) 190.84,49.91 138.59,49.91 cw(c141.46,85.28) 109.61,69.62 cw(c139.09,89.39) 107.01,104.57 133.09,149.85 cw(c165.46,131.18) 194.63,154.54 cw(c0.52,6.6) 195.93,152.83 196.92,151.33 cw(c191.99,148.07) 197.5,150.22 216.08,102.61 ccw(c221.58,104.76) 216.45,101.84 cw(c190.84,87.25) 217.57,99.67 cw(c0.52,6.6) 218.36,97.81 cw(c190.84,87.25) 190.84,57.78 138.7,57.78 cw(c141.46,85.28) 116.43,73.56 ; 200.5,159.38 ccw(c165.46,131.18) 126.49,153.63 100.13,108.41 ccw(c139.09,89.39) 102.79,65.68 ccw(c141.46,85.28) 138.48,42.03 190.84,42.03 ccw(c190.84,87.25) 232.88,103.9 ccw(c0.52,6.6) 232.05,105.88 ccw(c190.84,87.25) 230.59,108.81 cw(c235.78,111.63) 230.3,109.43 210.69,158.5 ccw(c205.2,156.3) 210.19,159.46 ccw(c165.46,131.18) 208.67,161.74 ccw(c0.52,6.6) 206.49,164.63 ccw(c165.46,131.18) 119.6,157.6 93.26,112.25 ccw(c139.09,89.39) 95.98,61.74 ccw(c141.46,85.28) 138.37,34.16 190.84,34.16 ccw(c190.84,87.25) 240.38,106.34 ccw(c0.52,6.6) 239.02,109.57 ccw(c190.84,87.25) 237.71,112.2 cw(c242.92,114.98) 237.43,112.79 217.39,162.92 ccw(c211.91,160.73) 216.84,163.98 215.58,165.9 ccw(c0.52,6.6) 212.56,169.9 ccw(c165.46,131.18) 112.65,161.64 86.39,116.1 ccw(c139.09,89.39) 89.16,57.8 ccw(c141.46,85.28) 138.27,26.29 190.84,26.29 ccw(c190.84,87.25) 247.91,108.71 ccw(c0.52,6.6) 245.95,113.32 ccw(c190.84,87.25) 244.79,115.65 cw(c250.02,118.4) 244.53,116.21 224.54,166.23 ccw(c219.05,164.04) 223.99,167.29 221.42,171.19 ccw(c0.52,6.6) 219.18,174.14 ccw(c165.46,131.18) 105.87,165.54 82.81,125.65 ccw(c139.09,89.39) 82.34,53.87 ccw(c141.46,85.28) 144.76,18.42 190.84,18.42 ccw(c190.84,87.25) 254.91,112.41 ccw(c0.52,6.6) 253.48,115.79 ccw(c190.84,87.25) 251.29,120.18 cw(c256.47,123.01) 250.99,120.81 230.88,171.12 ccw(c225.4,168.93) 230.39,172.08 ccw(c165.46,131.18) 98.99,169.53 61.99,105.27 ; 203.91,-141.57 204.05,-141.37 ; 230.43,109.1 230.54,108.89 ; -195.07,89.57 ccw(c-189.63,87.27) -189.63,81.36 -140.25,81.39 ccw(c-140.25,85.33) -136.81,83.41 cw(c0.73,6.72) -135.67,85.42 cw(c0.73,6.72) -134.5,87.42 ccw(c-137.88,89.43) -134.47,91.4 -159.16,134.17 ccw(c-164.28,131.22) -168.99,134.77 -201.85,93.71 ccw(c0.72,6.64) -202.13,93.07 ccw(c-189.63,87.27) -189.63,73.49 -138.01,73.55 ccw(c-140.25,85.33) -128.88,81.51 ccw(c-137.88,89.43) -126.56,93.38 -152.37,138.09 ccw(c-164.28,131.22) -173.82,141.11 ccw(c-169.72,136.86) -174.33,140.55 -175.65,138.9 ; -195.07,89.57 -195.07,89.57 ; -176.03,138.42 cw(c0.72,6.64) -175.66,138.91 ; -176.03,138.42 -175.65,138.9 ; -176.03,138.42 -207.81,98.71 ccw(c-203.2,95.02) -208.33,97.95 ccw(c-189.63,87.27) -189.61,65.73 -137.55,65.47 ccw(c-140.25,85.33) -121.85,77.4 ccw(c-137.88,89.43) -119.35,97.09 -145.36,142.13 ccw(c-164.28,131.22) -183.24,142.05 cw(c-188.37,144.97) -183.76,141.28 -214.76,102.55 ccw(c-210.15,98.86) -215.29,101.76 ccw(c-189.63,87.27) -216.36,99.68 ccw(c0.73,6.72) -217.15,97.82 ccw(c-189.63,87.27) -189.62,57.8 -137.47,57.83 ccw(c-140.25,85.33) -115.21,73.62 ; -115.42,-60.3 cw(c-138.09,-76.11) -112.89,-87.47 -138.96,-132.63 cw(c-164.48,-117.9) -187.38,-136.44 cw(c0.52,6.6) -188.6,-134.83 cw(c-164.48,-117.9) -189.92,-132.78 ccw(c-195.01,-135.76) -190.4,-132.07 -222.34,-92.17 cw(c-217.73,-88.48) -223.01,-91.12 -223.81,-89.51 cw(c0.52,6.6) -224.65,-87.53 cw(c-189.84,-73.95) -189.82,-36.58 -137.56,-36.63 cw(c-140.46,-72.01) -108.6,-56.36 cw(c-138.09,-76.11) -106.01,-91.31 -132.14,-136.57 cw(c-164.48,-117.9) -193.63,-141.24 cw(c0.52,6.6) -194.93,-139.51 cw(c-164.48,-117.9) -196.11,-137.75 ccw(c-201.11,-140.89) -196.47,-137.23 -228.92,-96.02 cw(c-224.28,-92.36) -229.49,-95.15 cw(c-189.84,-73.95) -230.86,-92.35 cw(c0.52,6.6) -231.77,-90.2 cw(c-189.84,-73.95) -189.79,-28.98 -137.45,-28.76 cw(c-140.46,-72.01) -101.78,-52.43 cw(c-138.09,-76.11) -99.14,-95.16 -125.32,-140.5 cw(c-164.48,-117.9) -199.92,-145.98 cw(c0.52,6.6) -201.21,-144.27 cw(c-164.48,-117.9) -203.03,-141.54 ccw(c-208.06,-144.63) -203.42,-140.97 -236.1,-99.46 cw(c-231.46,-95.8) -236.69,-98.55 cw(c-189.84,-73.95) -237.9,-96.09 cw(c0.52,6.6) -239.31,-92.76 cw(c-189.84,-73.95) -189.79,-21.02 -137.34,-20.89 cw(c-140.46,-72.01) -94.96,-48.49 cw(c-138.09,-76.11) -92.27,-99 -118.5,-144.44 cw(c-164.48,-117.9) -205.79,-151.25 cw(c0.52,6.6) -207.89,-148.46 cw(c-164.48,-117.9) -209.52,-146 ccw(c-214.53,-149.13) -209.89,-145.48 -243.29,-103.05 cw(c-238.65,-99.4) -243.93,-102.05 -244.96,-99.99 cw(c0.52,6.6) -246.91,-95.38 cw(c-189.84,-73.95) -189.8,-12.98 -137.24,-13.01 cw(c-140.46,-72.01) -88.14,-44.56 cw(c-138.09,-76.11) -85.4,-102.85 -111.68,-148.38 cw(c-164.48,-117.9) -211.6,-156.58 cw(c0.52,6.6) -214.61,-152.59 cw(c-164.48,-117.9) -216.05,-150.42 ccw(c-221.04,-153.57) -216.4,-149.91 -249.73,-107.59 cw(c-245.09,-103.93) -250.36,-106.58 -252.46,-102.41 cw(c0.52,6.6) -253.9,-98.99 cw(c-189.84,-73.95) -189.79,-5.16 -143.72,-5.14 cw(c-140.46,-72.01) -81.32,-40.62 cw(c-138.09,-76.11) -81.83,-112.4 -104.87,-152.31 cw(c-164.48,-117.9) -218.3,-160.81 cw(c0.52,6.6) -220.52,-157.87 cw(c-164.48,-117.9) -223.22,-153.78 ccw(c-228.26,-156.86) -223.62,-153.2 -257.14,-110.63 cw(c-252.5,-106.98) -257.72,-109.73 cw(c-189.84,-73.95) -189.81,2.79 -143.81,2.74 -129.82,2.74 -109.97,-3.83 -96.97,-11.83 -80.68,-28.12 ; -80.68,-28.12 -80.68,-28.12 ; -25.9,-212.26 ccw(c0.47,6.63) -25.28,-212.33 ; -25.89,-212.24 -27.98,-211.92 cw(c-27.09,-206.08) -28.72,-211.76 cw(c-24.92,-198.55) -36.83,-191.67 -11.02,-146.97 cw(c-1.94,-154.8) 0.42,-143.04 cw(c2.8,-154.8) 11.89,-146.97 37.74,-191.64 cw(c25.81,-198.53) 27.04,-212.26 cw(c0.47,6.63) 26.35,-212.34 -25.65,-204.41 cw(c-24.92,-198.55) -30.04,-195.59 -5.35,-152.83 cw(c-1.94,-154.8) -1.88,-150.86 ccw(c0.39,6.6) 0.43,-150.88 ccw(c0.39,6.6) 2.75,-150.86 cw(c2.8,-154.8) 6.21,-152.83 30.93,-195.58 cw(c25.81,-198.53) 26.54,-204.39 ; -25.89,-212.24 -25.28,-212.33 ; -25.49,217.59 ccw(c-24.76,211.73) -29.88,208.78 -5.16,166.03 ccw(c-1.75,168) -1.69,164.06 cw(c0.66,6.6) 0.62,164.08 cw(c0.66,6.6) 2.93,164.06 ccw(c2.99,168) 6.4,166.03 31.09,208.79 ccw(c25.97,211.75) 26.7,217.61 -25.29,225.54 ccw(c0.59,6.57) -25.98,225.46 ccw(c-24.76,211.73) -36.69,204.84 -10.84,160.17 ccw(c-1.75,168) 0.63,156.24 ccw(c2.99,168) 12.07,160.17 37.88,204.87 ccw(c25.97,211.75) 29.77,224.96 ccw(c28.14,219.28) 29.03,225.12 26.94,225.44 ; -25.49,217.59 -25.49,217.59 ; -25.28,-212.33 24.99,-220 ccw(c25.88,-214.16) 25.91,-220.07 ccw(c25.81,-198.53) 44.45,-187.75 18.65,-142.53 ccw(c2.8,-154.8) 0.47,-134.9 ccw(c-1.94,-154.8) -17.83,-142.58 -43.84,-187.63 ccw(c-24.92,-198.55) -24.82,-220.39 cw(c-24.79,-226.29) -23.9,-220.45 25.15,-227.94 ccw(c26.04,-222.1) 26.09,-228 ccw(c25.81,-198.53) 28.43,-227.89 ccw(c0.39,6.6) 30.44,-227.64 ccw(c25.81,-198.53) 51.33,-183.78 25.23,-138.64 ccw(c2.8,-154.8) 0.43,-127.26 ; 0.62,140.46 cw(c-1.75,168) -24.18,151.84 -50.28,196.98 cw(c-24.76,211.73) -29.39,240.84 cw(c0.66,6.6) -27.38,241.09 cw(c-24.76,211.73) -25.04,241.2 cw(c-24.99,235.3) -24.1,241.14 24.95,233.65 ccw(c25.84,239.49) 25.87,233.59 cw(c25.97,211.75) 44.89,200.83 18.88,155.78 cw(c2.99,168) 0.58,148.1 cw(c-1.75,168) -17.6,155.73 -43.4,200.95 cw(c-24.76,211.73) -24.86,233.27 cw(c-24.83,227.36) -23.94,233.2 26.34,225.53 ; 26.34,225.53 cw(c0.59,6.57) 26.95,225.46 ; 26.34,225.53 26.94,225.44 ; 26.54,-204.39 26.54,-204.39 ; 61.99,105.27 61.99,105.27 ; 116.26,-60.42 cw(c141.3,-72.13) 138.53,-44.63 190.67,-44.6 cw(c190.68,-74.07) 218.2,-84.62 cw(c0.32,6.48) 217.42,-86.48 cw(c190.68,-74.07) 216.34,-88.56 cw(c211.2,-85.66) 215.81,-89.35 184.81,-128.08 ccw(c189.42,-131.77) 184.29,-128.85 cw(c165.33,-118.01) 146.41,-128.93 120.41,-83.89 cw(c138.93,-76.23) 122.9,-64.2 cw(c141.3,-72.13) 138.6,-52.27 190.66,-52.53 cw(c190.68,-74.07) 209.38,-84.75 cw(c204.25,-81.82) 208.86,-85.51 177.08,-125.22 ; 116.43,73.56 cw(c139.09,89.39) 113.88,100.74 139.93,145.91 cw(c165.46,131.18) 188.36,149.74 cw(c0.52,6.6) 189.57,148.13 cw(c165.46,131.18) 190.84,146.16 cw(c185.76,143.16) 191.26,145.31 209.3,99.09 ccw(c214.8,101.24) 209.7,98.26 cw(c190.84,87.25) 190.84,65.41 138.83,65.41 cw(c141.46,85.28) 123.03,77.41 cw(c139.09,89.39) 120.55,96.98 146.8,141.93 cw(c165.46,131.18) 184.06,142.03 cw(c178.96,139.06) 184.46,141.21 202.96,93.83 ; 176.71,-125.71 ccw(c0.33,6.56) 177.08,-125.22 ; 176.7,-125.7 177.08,-125.22 ; 176.7,-125.7 175.38,-127.35 cw(c170.77,-123.66) 174.87,-127.91 cw(c165.33,-118.01) 153.42,-124.89 127.61,-80.18 cw(c138.93,-76.23) 129.93,-68.31 cw(c141.3,-72.13) 139.06,-60.35 190.68,-60.29 cw(c190.68,-74.07) 203.18,-79.87 cw(c0.33,6.56) 202.91,-80.51 170.04,-121.57 cw(c165.33,-118.01) 160.21,-120.97 135.52,-78.2 cw(c138.93,-76.23) 135.55,-74.22 ccw(c0.32,6.48) 136.72,-72.22 ccw(c0.32,6.48) 137.86,-70.21 cw(c141.3,-72.13) 141.3,-68.19 190.68,-68.16 cw(c190.68,-74.07) 196.12,-76.37 ; 196.12,-76.37 196.12,-76.37 ; 202.96,93.83 cw(c0.46,6.65) 203.2,93.26 ; 202.96,93.83 203.18,93.26
  lines w10: -51.84,-23.55 ccw(c0.51,6.68) 52.87,36.91
Mid-Layer 2:
  lines w3.94: -272.76,2.9 ccw(c-235.77,-7.01) -268.93,-26.16 -268.38,-27.12 ccw(c-201.92,-65.49) -269.81,-101.27 -238.52,-155.45 ; -229.55,108.84 -229.45,109.05 ; -203.12,-141.28 -202.99,-141.48 ; -202.22,93.21 cw(c0.52,6.6) -201.98,93.78 ; -176.16,-125.13 ccw(c0.59,6.65) -175.79,-125.63 ; -155.23,-80.67 cw(c-157.45,-81.95) -154.97,-82.61 -157.45,-81.95 -159.92,-77.67 cw(c-152.34,-73.29) -160.8,-71.02 -158.78,-68.84 -140.38,-68.1 cw(c-140.38,-72.04) -136.94,-70.12 ccw(c0.6,6.57) -135.8,-72.13 ccw(c0.6,6.57) -134.63,-74.13 cw(c-138.01,-76.15) -134.6,-78.12 -159.29,-120.88 cw(c-164.4,-117.93) -169.12,-121.48 -201.98,-80.42 cw(c0.59,6.65) -202.25,-79.78 cw(c-189.76,-73.98) -189.75,-60.2 -138.14,-60.26 cw(c-140.38,-72.04) -129.01,-68.23 cw(c-138.01,-76.15) -126.69,-80.1 -152.5,-124.8 cw(c-164.4,-117.93) -173.94,-127.82 cw(c-169.84,-123.57) -174.45,-127.26 -207.94,-85.43 cw(c-203.33,-81.74) -208.45,-84.67 cw(c-189.76,-73.98) -189.74,-52.45 -137.68,-52.19 cw(c-140.38,-72.04) -121.98,-64.11 cw(c-138.01,-76.15) -119.48,-83.8 -145.49,-128.85 cw(c-164.4,-117.93) -183.37,-128.76 ccw(c-188.5,-131.69) -183.88,-128 -214.89,-89.26 cw(c-210.28,-85.57) -215.42,-88.47 cw(c-189.76,-73.98) -216.49,-86.39 cw(c0.6,6.57) -217.28,-84.53 cw(c-189.76,-73.98) -189.74,-44.51 -137.6,-44.54 cw(c-140.38,-72.04) -115.34,-60.33 ; -153.01,97.89 cw(c-155.23,99.17) -154.56,96.69 -155.23,99.17 -152.75,103.45 cw(c-145.17,99.08) -147.44,107.53 -144.54,106.88 -134.7,91.31 cw(c-138.11,89.34) -134.73,87.32 ccw(c0.46,6.55) -135.9,85.33 ccw(c0.46,6.55) -137.04,83.31 cw(c-140.48,85.23) -140.48,81.3 -189.86,81.3 cw(c-189.86,87.2) -195.3,89.51 -176.17,138.5 cw(c0.52,6.6) -175.75,139.05 cw(c-164.48,131.13) -152.55,138.02 -126.79,93.29 cw(c-138.11,89.34) -129.12,81.4 cw(c-140.48,85.23) -138.24,73.46 -189.86,73.46 cw(c-189.86,87.2) -203.2,90.52 cw(c-197.47,89.09) -202.97,91.24 -183.48,141.16 cw(c-177.98,139.01) -183.08,141.98 cw(c-164.48,131.13) -145.82,141.89 -119.56,96.93 cw(c-138.11,89.34) -122.04,77.37 cw(c-140.48,85.23) -137.85,65.36 -189.86,65.36 cw(c-189.86,87.2) -208.72,98.21 ccw(c-213.82,101.19) -208.32,99.04 -190.28,145.26 cw(c-184.78,143.11) -189.86,146.11 cw(c-164.48,131.13) -188.59,148.08 cw(c0.46,6.55) -187.37,149.69 cw(c-164.48,131.13) -138.95,145.86 -112.9,100.69 cw(c-138.11,89.34) -115.45,73.51 ; -132.98,-231.97 ccw(c-105.9,-204.9) -105.9,-243.19 -104.79,-243.19 ccw(c-38.34,-204.82) -41.29,-281.5 21.28,-281.5 ; -115.5,73.42 cw(c0.46,6.55) -115.45,73.51 ; -115.39,-60.24 ccw(c0.6,6.57) -115.34,-60.33 ; -115.4,73.6 ccw(c0.46,6.55) -115.45,73.51 ; -115.29,-60.42 cw(c0.6,6.57) -115.34,-60.33 ; -29.63,59 -40.45,62.46 -75.05,129.61 -98.01,169.48 ccw(c-164.48,131.13) -229.41,172.03 ccw(c-224.41,168.88) -229.9,171.08 -250.01,120.77 cw(c-255.49,122.96) -250.31,120.13 ccw(c-189.86,87.2) -252.5,115.74 ccw(c0.46,6.55) -253.93,112.36 ccw(c-189.86,87.2) -189.86,18.37 -143.78,18.37 ccw(c-140.48,85.23) -81.36,53.82 ccw(c-138.11,89.34) -81.83,125.6 -104.89,165.49 ccw(c-164.48,131.13) -218.2,174.09 ccw(c0.46,6.55) -220.44,171.14 -223,167.24 ccw(c-218.07,163.99) -223.56,166.18 -243.55,116.16 cw(c-249.03,118.35) -243.81,115.6 ccw(c-189.86,87.2) -244.97,113.27 ccw(c0.46,6.55) -246.92,108.66 ccw(c-189.86,87.2) -189.86,26.24 -137.29,26.24 ccw(c-140.48,85.23) -88.18,57.75 ccw(c-138.11,89.34) -85.41,116.05 -111.67,161.59 ccw(c-164.48,131.13) -211.58,169.85 ccw(c0.46,6.55) -214.6,165.85 -215.86,163.93 ccw(c-210.93,160.68) -216.41,162.87 -236.45,112.74 cw(c-241.94,114.93) -236.72,112.15 ccw(c-189.86,87.2) -238.04,109.52 ccw(c0.46,6.55) -239.4,106.29 ccw(c-189.86,87.2) -189.86,34.11 -137.39,34.11 ccw(c-140.48,85.23) -94.99,61.69 ccw(c-138.11,89.34) -92.28,112.2 -118.62,157.56 ccw(c-164.48,131.13) -205.5,164.58 ccw(c0.46,6.55) -207.69,161.69 ccw(c-164.48,131.13) -209.21,159.41 ccw(c-204.22,156.25) -209.7,158.45 -229.31,109.39 cw(c-234.8,111.58) -229.61,108.76 ccw(c-189.86,87.2) -231.06,105.83 ccw(c0.46,6.55) -231.9,103.85 ccw(c-189.86,87.2) -189.86,41.98 -137.5,41.98 ccw(c-140.48,85.23) -101.81,65.63 ccw(c-138.11,89.34) -99.15,108.36 -125.51,153.58 ccw(c-164.48,131.13) -199.52,159.33 ccw(c0.46,6.55) -200.93,157.47 ccw(c-164.48,131.13) -202.67,154.88 ccw(c-197.65,151.76) -203.13,153.95 -222.6,105.24 cw(c-228.09,107.43) -222.87,104.67 ccw(c-189.86,87.2) -223.81,102.76 ccw(c0.46,6.55) -224.65,100.77 ccw(c-189.86,87.2) -189.86,49.86 -137.61,49.86 ccw(c-140.48,85.23) -108.63,69.57 ccw(c-138.11,89.34) -106.03,104.52 -132.11,149.8 ccw(c-164.48,131.13) -193.65,154.49 ccw(c0.46,6.55) -194.94,152.78 -195.93,151.28 ccw(c-191.01,148.02) -196.51,150.17 -215.1,102.56 cw(c-220.6,104.71) -215.47,101.79 ccw(c-189.86,87.2) -216.59,99.62 ccw(c0.46,6.55) -217.37,97.76 ccw(c-189.86,87.2) -189.86,57.73 -137.72,57.73 ccw(c-140.48,85.23) -115.45,73.51 ; -25.89,256.94 -25.66,256.96 ; -25.76,225.46 cw(c0.6,6.57) -25.15,225.53 ; -1.84,-171.97 cw(c-1.84,-174.54) -0.03,-172.72 -1.84,-174.54 -6.79,-174.54 cw(c-6.79,-165.78) -12.98,-171.97 -13.86,-169.14 -5.3,-152.83 cw(c-1.89,-154.8) -1.83,-150.86 ccw(c0.52,6.6) 0.48,-150.88 ccw(c0.52,6.6) 2.8,-150.86 cw(c2.85,-154.8) 6.26,-152.83 30.95,-195.59 cw(c25.84,-198.55) 26.56,-204.41 -25.43,-212.34 cw(c0.45,6.63) -26.12,-212.26 cw(c-24.9,-198.53) -36.83,-191.64 -10.97,-146.97 cw(c-1.89,-154.8) 0.49,-143.04 cw(c2.85,-154.8) 11.93,-146.97 37.74,-191.67 cw(c25.84,-198.55) 29.64,-211.76 cw(c28.01,-206.08) 28.9,-211.92 -24.08,-220 cw(c-24.97,-214.16) -24.99,-220.07 cw(c-24.9,-198.53) -43.54,-187.75 -17.73,-142.53 cw(c-1.89,-154.8) 0.45,-134.9 cw(c2.85,-154.8) 18.74,-142.58 44.75,-187.63 cw(c25.84,-198.55) 25.74,-220.39 ccw(c25.71,-226.29) 24.82,-220.45 -24.23,-227.94 cw(c-25.12,-222.1) -25.18,-228 cw(c-24.9,-198.53) -27.52,-227.89 cw(c0.52,6.6) -29.52,-227.64 cw(c-24.9,-198.53) -50.41,-183.78 -24.32,-138.64 cw(c-1.89,-154.8) 0.49,-127.26 ; 0.39,-127.26 ccw(c0.53,6.6) 0.49,-127.26 ; 0.46,140.46 cw(c0.53,6.6) 0.56,140.46 ; 0.59,-127.26 cw(c0.52,6.6) 0.49,-127.26 ; 0.66,140.46 ccw(c0.53,6.6) 0.56,140.46 ; 2.9,185.17 cw(c2.9,187.74) 1.08,185.92 2.9,187.74 7.84,187.74 cw(c7.84,178.98) 14.03,185.17 14.91,182.34 6.35,166.03 cw(c2.94,168) 2.88,164.06 ccw(c0.53,6.6) 0.57,164.08 ccw(c0.53,6.6) -1.75,164.06 cw(c-1.8,168) -5.21,166.03 -29.9,208.79 cw(c-24.79,211.75) -25.51,217.61 26.48,225.54 cw(c0.6,6.57) 27.17,225.46 cw(c25.95,211.73) 37.88,204.84 12.02,160.17 cw(c2.94,168) 0.56,156.24 cw(c-1.8,168) -10.88,160.17 -36.69,204.87 cw(c-24.79,211.75) -28.59,224.96 cw(c-26.96,219.28) -27.85,225.12 25.13,233.2 cw(c26.02,227.36) 26.04,233.27 cw(c25.95,211.73) 44.59,200.95 18.78,155.73 cw(c2.94,168) 0.6,148.1 cw(c-1.8,168) -17.69,155.78 -43.7,200.83 cw(c-24.79,211.75) -24.69,233.59 ccw(c-24.66,239.49) -23.77,233.65 25.28,241.14 cw(c26.17,235.3) 26.23,241.2 cw(c25.95,211.73) 28.57,241.09 cw(c0.53,6.6) 30.57,240.84 cw(c25.95,211.73) 51.46,196.98 25.37,151.84 cw(c2.94,168) 0.56,140.46 ; 26.2,-212.33 ccw(c0.45,6.63) 26.81,-212.26 ; 26.71,-243.76 26.94,-243.74 ; 30.82,-45.71 41.66,-49.24 62.59,-90.38 76.04,-116.46 99,-156.33 ccw(c165.46,-117.98) 230.4,-158.88 ccw(c225.4,-155.73) 230.88,-157.93 ; 116.34,73.62 cw(c0.45,6.63) 116.39,73.53 ; 116.38,-60.45 ccw(c0.53,6.6) 116.43,-60.36 ; 116.44,73.44 ccw(c0.45,6.63) 116.39,73.53 ; 116.48,-60.27 cw(c0.52,6.6) 116.43,-60.36 ; 134.03,245.17 ccw(c106.95,218.1) 106.95,256.39 105.84,256.39 ccw(c39.39,218.02) 42.34,294.7 -20.23,294.7 ; 156.28,93.87 cw(c158.5,95.15) 156.03,95.81 158.5,95.15 160.97,90.87 cw(c153.39,86.49) 161.85,84.22 159.83,82.04 141.43,81.3 cw(c141.43,85.24) 137.99,83.32 ccw(c0.45,6.63) 136.85,85.33 ccw(c0.45,6.63) 135.68,87.33 cw(c139.06,89.35) 135.65,91.32 160.34,134.08 cw(c165.45,131.13) 170.17,134.68 203.03,93.62 cw(c0.46,6.55) 203.31,92.98 cw(c190.81,87.18) 190.8,73.4 139.19,73.46 cw(c141.43,85.24) 130.06,81.43 cw(c139.06,89.35) 127.74,93.3 153.55,138 cw(c165.45,131.13) 174.99,141.02 cw(c170.89,136.77) 175.5,140.46 208.99,98.63 cw(c204.38,94.94) 209.51,97.87 cw(c190.81,87.18) 190.79,65.65 138.73,65.39 cw(c141.43,85.24) 123.03,77.31 cw(c139.06,89.35) 120.53,97 146.54,142.05 cw(c165.45,131.13) 184.42,141.96 ccw(c189.55,144.89) 184.94,141.2 215.94,102.46 cw(c211.33,98.77) 216.47,101.67 cw(c190.81,87.18) 217.54,99.59 cw(c0.45,6.63) 218.33,97.73 cw(c190.81,87.18) 190.79,57.71 138.65,57.74 cw(c141.43,85.24) 116.39,73.53 ; 175.42,-94.28 170.18,-121.54 cw(c165.46,-117.98) 160.35,-120.93 135.68,-78.16 cw(c139.09,-76.19) 135.71,-74.17 ccw(c0.53,6.6) 136.88,-72.18 ccw(c0.53,6.6) 138.03,-70.16 cw(c141.46,-72.08) 141.46,-68.15 190.84,-68.15 cw(c190.84,-74.05) 196.28,-76.36 177.15,-125.35 cw(c0.46,6.55) 176.74,-125.9 cw(c165.46,-117.98) 153.53,-124.87 127.77,-80.14 cw(c139.09,-76.19) 130.1,-68.25 cw(c141.46,-72.08) 139.23,-60.31 190.84,-60.31 cw(c190.84,-74.05) 204.18,-77.37 cw(c198.45,-75.94) 203.95,-78.09 184.47,-128.01 cw(c178.96,-125.86) 184.07,-128.83 cw(c165.46,-117.98) 146.81,-128.73 120.55,-83.78 cw(c139.09,-76.19) 123.03,-64.21 cw(c141.46,-72.08) 138.83,-52.21 190.84,-52.21 cw(c190.84,-74.05) 209.71,-85.06 ccw(c214.81,-88.04) 209.31,-85.89 191.26,-132.11 cw(c185.76,-129.96) 190.85,-132.96 cw(c165.46,-117.98) 189.58,-134.93 cw(c0.53,6.6) 188.36,-136.54 cw(c165.46,-117.98) 139.93,-132.71 113.89,-87.54 cw(c139.09,-76.19) 116.43,-60.36 ; 176.84,138.83 cw(c0.46,6.55) 177.21,138.33 ; 200.5,-146.18 cw(c165.46,-117.98) 126.49,-140.43 100.13,-95.21 cw(c139.09,-76.19) 102.8,-52.48 cw(c141.46,-72.08) 138.48,-28.83 190.84,-28.83 cw(c190.84,-74.05) 232.88,-90.7 cw(c0.53,6.6) 232.05,-92.68 cw(c190.84,-74.05) 230.59,-95.61 ccw(c235.78,-98.43) 230.3,-96.23 210.69,-145.3 cw(c205.2,-143.1) 210.2,-146.26 cw(c165.46,-117.98) 208.67,-148.54 cw(c0.53,6.6) 206.49,-151.43 cw(c165.46,-117.98) 119.6,-144.4 93.26,-99.05 cw(c139.09,-76.19) 95.98,-48.54 cw(c141.46,-72.08) 138.38,-20.96 190.84,-20.96 cw(c190.84,-74.05) 240.38,-93.14 cw(c0.53,6.6) 239.02,-96.37 cw(c190.84,-74.05) 237.71,-99 ccw(c242.92,-101.78) 237.44,-99.59 217.4,-149.72 cw(c211.91,-147.53) 216.85,-150.78 215.58,-152.7 cw(c0.53,6.6) 212.56,-156.7 cw(c165.46,-117.98) 112.65,-148.44 86.39,-102.9 cw(c139.09,-76.19) 89.16,-44.6 cw(c141.46,-72.08) 138.28,-13.09 190.84,-13.09 cw(c190.84,-74.05) 247.91,-95.51 cw(c0.53,6.6) 245.95,-100.12 cw(c190.84,-74.05) 244.79,-102.45 ccw(c250.02,-105.2) 244.53,-103.01 224.54,-153.03 cw(c219.06,-150.84) 223.99,-154.09 221.42,-157.99 cw(c0.53,6.6) 219.18,-160.94 cw(c165.46,-117.98) 105.87,-152.34 82.81,-112.45 cw(c139.09,-76.19) 82.35,-40.67 cw(c141.46,-72.08) 144.76,-5.22 190.84,-5.22 cw(c190.84,-74.05) 254.92,-99.21 cw(c0.53,6.6) 253.48,-102.59 cw(c190.84,-74.05) 251.29,-106.98 ccw(c256.48,-109.81) 250.99,-107.61 230.88,-157.93 ; 200.5,-146.17 ccw(c0.53,6.6) 201.91,-144.31 ccw(c165.46,-117.98) 203.65,-141.73 ccw(c198.63,-138.61) 204.12,-140.8 223.59,-92.09 cw(c229.07,-94.28) 223.85,-91.52 ccw(c190.84,-74.05) 224.79,-89.61 ccw(c0.53,6.6) 225.64,-87.62 ccw(c190.84,-74.05) 190.84,-36.71 138.59,-36.71 ccw(c141.46,-72.08) 109.61,-56.42 ccw(c139.09,-76.19) 107.01,-91.37 133.09,-136.65 ccw(c165.46,-117.98) 194.63,-141.34 ccw(c0.53,6.6) 195.93,-139.63 196.92,-138.13 ccw(c192,-134.87) 197.5,-137.02 216.08,-89.41 cw(c221.58,-91.56) 216.45,-88.64 ccw(c190.84,-74.05) 217.57,-86.47 ccw(c0.53,6.6) 218.36,-84.61 ccw(c190.84,-74.05) 190.84,-44.58 138.7,-44.58 ccw(c141.46,-72.08) 116.43,-60.36 ; 202.96,-80.63 ccw(c0.46,6.55) 203.21,-80.06 ; 204.04,154.68 204.17,154.48 ; 230.43,-95.9 230.54,-95.69 ; 237.07,112.69 cw(c232.43,109.04) 237.66,111.78 cw(c190.81,87.18) 238.88,109.32 cw(c0.45,6.63) 240.28,105.99 cw(c190.81,87.18) 190.76,34.25 138.31,34.12 cw(c141.43,85.24) 95.93,61.72 cw(c139.06,89.35) 93.24,112.23 119.47,157.67 cw(c165.45,131.13) 206.76,164.48 cw(c0.45,6.63) 208.87,161.69 cw(c165.45,131.13) 210.49,159.24 ccw(c215.5,162.36) 210.86,158.71 244.26,116.29 cw(c239.62,112.63) 244.9,115.28 245.93,113.22 cw(c0.45,6.63) 247.88,108.61 cw(c190.81,87.18) 190.78,26.22 138.21,26.24 cw(c141.43,85.24) 89.11,57.79 cw(c139.06,89.35) 86.37,116.08 112.65,161.61 cw(c165.45,131.13) 212.57,169.81 cw(c0.45,6.63) 215.59,165.82 cw(c165.45,131.13) 217.02,163.65 ccw(c222.02,166.8) 217.38,163.15 250.7,120.82 cw(c246.06,117.17) 251.34,119.81 253.43,115.64 cw(c0.45,6.63) 254.87,112.22 cw(c190.81,87.18) 190.77,18.4 144.69,18.37 cw(c141.43,85.24) 82.29,53.86 cw(c139.06,89.35) 82.8,125.63 105.84,165.54 cw(c165.45,131.13) 219.27,174.04 cw(c0.45,6.63) 221.49,171.1 cw(c165.45,131.13) 224.19,167.01 ccw(c229.23,170.09) 224.59,166.44 258.11,123.86 cw(c253.47,120.21) 258.69,122.97 cw(c190.81,87.18) 190.79,10.44 144.78,10.49 cw(c141.43,85.24) 75.47,49.92 cw(c139.06,89.35) 76.02,129.66 99.02,169.48 cw(c165.45,131.13) 224.22,180.44 229.46,171.36 239.57,168.65 ; 237.07,112.69 204.39,154.2 cw(c209.03,157.86) 204,154.77 ccw(c165.45,131.13) 202.18,157.5 ccw(c0.45,6.63) 200.89,159.21 ccw(c165.45,131.13) 126.29,153.74 100.11,108.39 ccw(c139.06,89.35) 102.75,65.66 ccw(c141.43,85.24) 138.42,41.99 190.76,42.21 ccw(c190.81,87.18) 232.74,103.43 ccw(c0.45,6.63) 231.84,105.58 ccw(c190.81,87.18) 230.46,108.38 ccw(c225.26,105.6) 229.9,109.25 197.45,150.47 cw(c202.09,154.12) 197.08,150.98 ccw(c165.45,131.13) 195.9,152.75 ccw(c0.45,6.63) 194.6,154.48 ccw(c165.45,131.13) 133.11,149.8 106.98,104.55 ccw(c139.06,89.35) 109.57,69.59 ccw(c141.43,85.24) 138.54,49.86 190.79,49.81 ccw(c190.81,87.18) 225.62,100.77 ccw(c0.45,6.63) 224.78,102.74 223.98,104.35 ccw(c218.7,101.72) 223.31,105.41 191.38,145.3 cw(c195.99,148.99) 190.89,146.01 ccw(c165.45,131.13) 189.57,148.06 ccw(c0.45,6.63) 188.36,149.67 ccw(c165.45,131.13) 139.93,145.86 113.86,100.71 ccw(c139.06,89.35) 116.39,73.53 ; 273.81,10.3 ccw(c236.82,20.21) 269.99,39.36 269.43,40.32 ccw(c202.97,78.69) 270.86,114.47 239.57,168.65 ; -238.52,-155.45 -228.4,-158.16 -223.17,-167.24 ccw(c-164.4,-117.93) -97.97,-156.28 -74.97,-116.46 ccw(c-138.01,-76.15) -74.42,-36.72 ccw(c-140.38,-72.04) -143.73,2.71 -189.74,2.76 ccw(c-189.76,-73.98) -257.64,-109.77 ccw(c-252.42,-107.01) -257.06,-110.66 -223.54,-153.24 cw(c-228.18,-156.89) -223.14,-153.81 ccw(c-164.4,-117.93) -220.44,-157.9 ccw(c0.6,6.57) -218.22,-160.84 ccw(c-164.4,-117.93) -104.79,-152.34 -81.75,-112.43 ccw(c-138.01,-76.15) -81.24,-40.66 ccw(c-140.38,-72.04) -143.64,-5.17 -189.71,-5.2 ccw(c-189.76,-73.98) -253.82,-99.02 ccw(c0.6,6.57) -252.38,-102.44 -250.29,-106.61 ccw(c-245.01,-103.97) -249.65,-107.62 -216.32,-149.95 cw(c-220.96,-153.6) -215.97,-150.45 ccw(c-164.4,-117.93) -214.54,-152.62 ccw(c0.6,6.57) -211.52,-156.61 ccw(c-164.4,-117.93) -111.6,-148.41 -85.32,-102.88 ccw(c-138.01,-76.15) -88.06,-44.59 ccw(c-140.38,-72.04) -137.16,-13.04 -189.73,-13.02 ccw(c-189.76,-73.98) -246.83,-95.41 ccw(c0.6,6.57) -244.88,-100.02 -243.85,-102.08 ccw(c-238.57,-99.43) -243.21,-103.09 -209.81,-145.51 cw(c-214.45,-149.16) -209.44,-146.04 ccw(c-164.4,-117.93) -207.81,-148.49 ccw(c0.6,6.57) -205.71,-151.28 ccw(c-164.4,-117.93) -118.42,-144.47 -92.19,-99.03 ccw(c-138.01,-76.15) -94.88,-48.52 ccw(c-140.38,-72.04) -137.26,-20.92 -189.71,-21.05 ccw(c-189.76,-73.98) -239.23,-92.79 ccw(c0.6,6.57) -237.83,-96.12 ccw(c-189.76,-73.98) -236.61,-98.58 ccw(c-231.38,-95.84) -236.02,-99.49 -203.34,-141 cw(c-207.98,-144.66) -202.95,-141.57 ccw(c-164.4,-117.93) -201.13,-144.3 ccw(c0.6,6.57) -199.84,-146.01 ccw(c-164.4,-117.93) -125.24,-140.54 -99.06,-95.19 ccw(c-138.01,-76.15) -101.7,-52.46 ccw(c-140.38,-72.04) -137.37,-28.79 -189.71,-29.01 ccw(c-189.76,-73.98) -231.69,-90.23 ccw(c0.6,6.57) -230.79,-92.38 ccw(c-189.76,-73.98) -229.41,-95.18 ccw(c-224.2,-92.4) -228.84,-96.05 -196.4,-137.27 cw(c-201.04,-140.92) -196.03,-137.78 ccw(c-164.4,-117.93) -194.85,-139.55 ccw(c0.6,6.57) -193.55,-141.28 ccw(c-164.4,-117.93) -132.06,-136.6 -105.93,-91.35 ccw(c-138.01,-76.15) -108.52,-56.39 ccw(c-140.38,-72.04) -137.48,-36.66 -189.74,-36.61 ccw(c-189.76,-73.98) -224.57,-87.57 ccw(c0.6,6.57) -223.73,-89.54 -222.93,-91.15 ccw(c-217.65,-88.52) -222.26,-92.21 -190.32,-132.1 cw(c-194.94,-135.79) -189.84,-132.81 ccw(c-164.4,-117.93) -188.52,-134.86 ccw(c0.6,6.57) -187.31,-136.47 ccw(c-164.4,-117.93) -138.88,-132.66 -112.81,-87.51 ccw(c-138.01,-76.15) -115.34,-60.33 ; -238.52,-155.45 -238.52,-155.45 ; -20.23,294.7 -27.63,287.29 -38.11,287.29 ccw(c-24.79,211.75) -91.22,173.39 -68.23,133.56 ccw(c-1.8,168) 0.55,93.21 ccw(c2.94,168) 69.35,133.53 92.39,173.34 ccw(c25.95,211.73) 28.9,288.41 ccw(c28.67,282.51) 27.83,288.36 -25.8,280.62 cw(c-26.64,286.46) -26.49,280.56 ccw(c-24.79,211.75) -31.39,280.26 ccw(c0.53,6.6) -35.04,279.81 ccw(c-24.79,211.75) -84.4,177.33 -61.36,137.42 ccw(c-1.8,168) 0.55,101.09 ccw(c2.94,168) 62.48,137.39 85.5,177.3 ccw(c25.95,211.73) 36.29,279.74 ccw(c0.53,6.6) 32.61,280.19 27.95,280.47 ccw(c27.61,274.57) 26.76,280.42 -26.56,272.72 cw(c-27.4,278.57) -27.17,272.67 ccw(c-24.79,211.75) -29.76,272.51 ccw(c0.53,6.6) -34.73,271.9 ccw(c-24.79,211.75) -77.59,181.26 -51.3,135.74 ccw(c-1.8,168) 0.55,108.96 ccw(c2.94,168) 52.42,135.71 78.73,181.22 ccw(c25.95,211.73) 35.93,271.88 ccw(c0.53,6.6) 30.96,272.49 28.66,272.63 ccw(c28.31,266.73) 27.47,272.58 -25.97,264.86 cw(c-26.81,270.71) -26.61,264.81 ccw(c-24.79,211.75) -29.55,264.62 ccw(c0.53,6.6) -33.02,264.2 ccw(c-24.79,211.75) -70.77,185.2 -44.53,139.76 ccw(c-1.8,168) 0.56,116.84 ccw(c2.94,168) 45.66,139.74 71.76,185.23 ccw(c25.95,211.73) 34.4,263.98 ccw(c0.53,6.6) 30.81,264.43 ccw(c25.95,211.73) 28.07,264.61 ccw(c27.83,258.71) 26.99,264.55 -25.3,257.01 cw(c-26.15,262.85) -25.99,256.95 ccw(c-24.79,211.75) -29.26,256.74 ccw(c0.53,6.6) -31.39,256.48 ccw(c-24.79,211.75) -63.95,189.14 -37.77,143.79 ccw(c-1.8,168) 0.56,124.71 ccw(c2.94,168) 38.89,143.77 64.87,189.2 ccw(c25.95,211.73) 32.84,256.17 ccw(c0.53,6.6) 30.53,256.46 ccw(c25.95,211.73) 27.42,256.67 ccw(c27.22,250.77) 26.38,256.62 -25.54,249.12 cw(c-26.38,254.97) -26.16,249.07 ccw(c-24.79,211.75) -28.28,248.93 ccw(c0.53,6.6) -30.43,248.66 ccw(c-24.79,211.75) -57.13,193.07 -31,147.82 ccw(c-1.8,168) 0.56,132.58 ccw(c2.94,168) 32.13,147.8 58.3,193.03 ccw(c25.95,211.73) 31.59,248.67 ccw(c0.53,6.6) 29.46,248.94 27.67,249.05 ccw(c27.31,243.15) 26.42,248.99 -24.1,241.28 cw(c-24.99,247.12) -24.96,241.22 ccw(c-24.79,211.75) -27.39,241.1 ccw(c0.53,6.6) -29.4,240.86 ccw(c-24.79,211.75) -50.31,197.01 -24.24,151.86 ccw(c-1.8,168) 0.56,140.46 ; -20.23,294.7 -20.23,294.7 ; 0.49,-127.26 cw(c2.85,-154.8) 25.29,-138.65 51.36,-183.81 cw(c25.84,-198.55) 30.45,-227.65 cw(c0.52,6.6) 28.44,-227.9 cw(c25.84,-198.55) 26.01,-228.02 ccw(c26.05,-233.92) 25.15,-228.08 -25.36,-235.79 cw(c-26.25,-229.95) -26.62,-235.85 -28.41,-235.74 cw(c0.52,6.6) -30.54,-235.47 cw(c-24.9,-198.53) -57.25,-179.83 -31.08,-134.6 cw(c-1.89,-154.8) 0.49,-119.38 cw(c2.85,-154.8) 32.05,-134.62 58.18,-179.87 cw(c25.84,-198.55) 31.49,-235.46 cw(c0.52,6.6) 29.34,-235.73 cw(c25.84,-198.55) 27.22,-235.87 ccw(c27.43,-241.77) 26.59,-235.92 -25.33,-243.42 cw(c-26.17,-237.57) -26.37,-243.47 cw(c-24.9,-198.53) -29.48,-243.26 cw(c0.52,6.6) -31.79,-242.97 cw(c-24.9,-198.53) -63.82,-176 -37.84,-130.57 cw(c-1.89,-154.8) 0.49,-111.51 cw(c2.85,-154.8) 38.82,-130.59 65,-175.94 cw(c25.84,-198.55) 32.44,-243.28 cw(c0.52,6.6) 30.31,-243.54 cw(c25.84,-198.55) 27.04,-243.75 ccw(c27.2,-249.65) 26.35,-243.81 -25.94,-251.35 cw(c-26.78,-245.51) -27.02,-251.41 cw(c-24.9,-198.53) -29.76,-251.23 cw(c0.52,6.6) -33.35,-250.78 cw(c-24.9,-198.53) -70.71,-172.03 -44.6,-126.54 cw(c-1.89,-154.8) 0.5,-103.64 cw(c2.85,-154.8) 45.58,-126.56 71.82,-172 cw(c25.84,-198.55) 34.07,-251 cw(c0.52,6.6) 30.6,-251.42 cw(c25.84,-198.55) 27.66,-251.61 ccw(c27.86,-257.51) 27.02,-251.66 -26.42,-259.38 cw(c-27.26,-253.53) -27.61,-259.43 -29.91,-259.29 cw(c0.52,6.6) -34.87,-258.68 cw(c-24.9,-198.53) -77.68,-168.02 -51.37,-122.51 cw(c-1.89,-154.8) 0.5,-95.76 cw(c2.85,-154.8) 52.35,-122.54 78.64,-168.06 cw(c25.84,-198.55) 35.78,-258.7 cw(c0.52,6.6) 30.82,-259.31 cw(c25.84,-198.55) 28.22,-259.47 ccw(c28.45,-265.37) 27.61,-259.52 -25.71,-267.22 cw(c-26.55,-261.37) -26.9,-267.27 -31.56,-266.99 cw(c0.52,6.6) -35.24,-266.54 cw(c-24.9,-198.53) -84.45,-164.1 -61.43,-124.19 cw(c-1.89,-154.8) 0.5,-87.89 cw(c2.85,-154.8) 62.41,-124.22 85.45,-164.13 cw(c25.84,-198.55) 36.09,-266.61 cw(c0.52,6.6) 32.44,-267.06 cw(c25.84,-198.55) 27.54,-267.36 ccw(c27.69,-273.26) 26.85,-267.42 -26.78,-275.16 cw(c-27.62,-269.31) -27.85,-275.21 cw(c-24.9,-198.53) -91.34,-160.14 -68.3,-120.33 cw(c-1.89,-154.8) 0.5,-80.01 cw(c2.85,-154.8) 69.28,-120.36 92.27,-160.19 cw(c25.84,-198.55) 39.16,-274.09 28.68,-274.09 21.28,-281.5 ; 21.28,-281.5 21.28,-281.5 ; 239.57,168.65 239.57,168.65
  lines w10: -29.63,59 ccw(c0.59,6.65) 30.82,-45.71
Bottom Layer:
  lines w3.94: -272.77,2.82 -272.66,2.71 -189.86,2.71 -143.87,2.71 cw(c-140.48,-72.03) -74.54,-36.68 cw(c-138.1,-76.14) -75.05,-116.41 -98.01,-156.28 cw(c-164.48,-117.93) -229.41,-158.83 cw(c-224.41,-155.68) -229.89,-157.88 -250,-107.56 ccw(c-255.49,-109.76) -250.3,-106.93 cw(c-189.86,-74) -252.49,-102.54 cw(c0.46,6.65) -253.93,-99.16 cw(c-189.86,-74) -189.86,-5.17 -143.77,-5.17 cw(c-140.48,-72.03) -81.36,-40.62 cw(c-138.1,-76.14) -81.83,-112.4 -104.88,-152.29 cw(c-164.48,-117.93) -218.2,-160.89 cw(c0.46,6.65) -220.43,-157.94 -223,-154.04 cw(c-218.07,-150.79) -223.55,-152.98 -243.55,-102.96 ccw(c-249.03,-105.15) -243.8,-102.4 cw(c-189.86,-74) -244.97,-100.07 cw(c0.46,6.65) -246.92,-95.46 cw(c-189.86,-74) -189.86,-13.04 -137.29,-13.04 cw(c-140.48,-72.03) -88.17,-44.55 cw(c-138.1,-76.14) -85.4,-102.85 -111.66,-148.39 cw(c-164.48,-117.93) -211.57,-156.65 cw(c0.46,6.65) -214.59,-152.65 -215.86,-150.73 cw(c-210.92,-147.48) -216.41,-149.67 -236.45,-99.54 ccw(c-241.93,-101.73) -236.72,-98.95 cw(c-189.86,-74) -238.03,-96.32 cw(c0.46,6.65) -239.4,-93.09 cw(c-189.86,-74) -189.86,-20.91 -137.39,-20.91 cw(c-140.48,-72.03) -94.99,-48.49 cw(c-138.1,-76.14) -92.27,-99 -118.61,-144.36 cw(c-164.48,-117.93) -205.5,-151.38 cw(c0.46,6.65) -207.68,-148.49 cw(c-164.48,-117.93) -209.21,-146.21 cw(c-204.22,-143.05) -209.7,-145.25 -229.31,-96.19 ccw(c-234.79,-98.38) -229.6,-95.56 cw(c-189.86,-74) -231.06,-92.63 cw(c0.46,6.65) -231.9,-90.65 cw(c-189.86,-74) -189.86,-28.78 -137.49,-28.78 cw(c-140.48,-72.03) -101.81,-52.43 cw(c-138.1,-76.14) -99.15,-95.16 -125.5,-140.38 cw(c-164.48,-117.93) -199.52,-146.13 cw(c0.46,6.65) -200.92,-144.26 cw(c-164.48,-117.93) -202.66,-141.68 cw(c-197.65,-138.56) -203.13,-140.75 -222.6,-92.04 ccw(c-228.08,-94.23) -222.86,-91.47 cw(c-189.86,-74) -223.8,-89.56 cw(c0.46,6.65) -224.65,-87.57 cw(c-189.86,-74) -189.86,-36.66 -137.6,-36.66 cw(c-140.48,-72.03) -108.63,-56.37 cw(c-138.1,-76.14) -106.02,-91.32 -132.11,-136.6 cw(c-164.48,-117.93) -193.65,-141.29 cw(c0.46,6.65) -194.94,-139.58 -195.93,-138.08 cw(c-191.01,-134.82) -196.51,-136.97 -215.09,-89.36 ccw(c-220.6,-91.51) -215.46,-88.59 cw(c-189.86,-74) -216.58,-86.42 cw(c0.46,6.65) -217.37,-84.56 cw(c-189.86,-74) -189.86,-44.53 -137.71,-44.53 cw(c-140.48,-72.03) -115.44,-60.31 ; -231.63,103.48 ccw(c-189.69,87.23) -189.64,42.26 -137.3,42.04 ccw(c-140.31,85.29) -101.63,65.71 ccw(c-137.94,89.4) -98.99,108.44 -125.17,153.79 ccw(c-164.33,131.18) -199.77,159.26 ccw(c0.67,6.68) -201.07,157.55 ccw(c-164.33,131.18) -202.88,154.82 cw(c-207.91,157.91) -203.27,154.25 -235.96,112.74 ccw(c-231.32,109.09) -236.54,111.83 ccw(c-189.69,87.23) -237.76,109.37 ccw(c0.67,6.68) -239.16,106.04 ccw(c-189.69,87.23) -189.64,34.3 -137.19,34.17 ccw(c-140.31,85.29) -94.81,61.77 ccw(c-137.94,89.4) -92.12,112.28 -118.35,157.72 ccw(c-164.33,131.18) -205.64,164.53 ccw(c0.67,6.68) -207.75,161.74 ccw(c-164.33,131.18) -209.37,159.29 cw(c-214.38,162.41) -209.74,158.76 -243.14,116.33 ccw(c-238.5,112.68) -243.78,115.33 -244.81,113.27 ccw(c0.67,6.68) -246.77,108.66 ccw(c-189.69,87.23) -189.66,26.26 -137.09,26.29 ccw(c-140.31,85.29) -87.99,57.84 ccw(c-137.94,89.4) -85.25,116.13 -111.54,161.66 ccw(c-164.33,131.18) -211.45,169.86 ccw(c0.67,6.68) -214.47,165.87 ccw(c-164.33,131.18) -215.9,163.7 cw(c-220.9,166.85) -216.26,163.2 -249.58,120.87 ccw(c-244.94,117.22) -250.22,119.86 -252.31,115.69 ccw(c0.67,6.68) -253.76,112.27 ccw(c-189.69,87.23) -189.65,18.44 -143.57,18.42 ccw(c-140.31,85.29) -81.17,53.91 ccw(c-137.94,89.4) -81.68,125.68 -104.72,165.59 ccw(c-164.33,131.18) -218.15,174.09 ccw(c0.67,6.68) -220.37,171.15 ccw(c-164.33,131.18) -223.07,167.06 cw(c-228.11,170.14) -223.47,166.48 -256.99,123.91 ccw(c-252.35,120.26) -257.57,123.01 ccw(c-189.69,87.23) -189.67,10.49 -143.66,10.54 ccw(c-140.31,85.29) -74.35,49.97 ccw(c-137.94,89.4) -74.9,129.7 -97.9,169.53 ccw(c-106.52,169.53) -100.42,175.63 -113.97,189.17 -120.43,195.64 ccw(c-128.97,187.1) -128.97,199.17 -141.68,205.16 -147.92,211.4 cw(c-138.15,221.17) -151.97,221.17 -151.97,227.76 cw(c-148.55,227.76) -150.97,230.17 cw(c-143.73,230.17) -148.85,235.29 -146.97,237.17 ccw(c-146.97,245.47) -141.1,239.6 -139.2,241.51 ; -231.62,103.48 cw(c0.67,6.68) -230.72,105.63 cw(c-189.69,87.23) -229.34,108.43 cw(c-224.14,105.64) -228.78,109.3 -196.33,150.51 ccw(c-200.97,154.17) -195.96,151.03 cw(c-164.33,131.18) -194.78,152.79 cw(c0.67,6.68) -193.48,154.52 cw(c-164.33,131.18) -131.99,149.85 -105.87,104.59 cw(c-137.94,89.4) -108.45,69.64 cw(c-140.31,85.29) -137.42,49.91 -189.67,49.86 cw(c-189.69,87.23) -224.5,100.81 cw(c0.67,6.68) -223.66,102.79 -222.87,104.4 cw(c-217.58,101.77) -222.19,105.46 -190.26,145.35 ccw(c-194.87,149.04) -189.77,146.06 cw(c-164.33,131.18) -188.45,148.11 cw(c0.67,6.68) -187.24,149.72 cw(c-164.33,131.18) -138.81,145.91 -112.74,100.76 cw(c-137.94,89.4) -115.27,73.58 ; -229.55,-95.64 -229.44,-95.85 ; -203.05,154.53 -202.92,154.73 ; -174.37,-94.28 -181.73,-111.06 -176.17,-125.3 ccw(c0.53,6.6) -175.75,-125.85 ccw(c-164.48,-117.93) -152.54,-124.82 -126.78,-80.09 ccw(c-138.1,-76.14) -129.12,-68.2 ccw(c-140.48,-72.03) -138.24,-60.26 -189.86,-60.26 ccw(c-189.86,-74) -203.2,-77.32 ccw(c-197.47,-75.89) -202.97,-78.04 -202.2,-80.01 ; -154.42,96.71 -150.83,119.04 -159.22,134.13 ccw(c-164.33,131.18) -169.05,134.73 -201.91,93.67 ccw(c0.66,6.6) -202.19,93.03 ccw(c-189.69,87.23) -189.68,73.45 -138.07,73.51 ccw(c-140.31,85.29) -128.94,81.47 ccw(c-137.94,89.4) -126.62,93.35 -152.43,138.05 ccw(c-164.33,131.18) -173.87,141.07 ccw(c-169.78,136.82) -174.39,140.51 -175.71,138.86 ; -115.49,-60.22 ccw(c0.46,6.65) -115.44,-60.31 ; -115.39,-60.4 cw(c0.46,6.65) -115.44,-60.31 ; -115.32,73.49 cw(c0.67,6.68) -115.27,73.58 ; -115.22,73.67 ccw(c0.67,6.68) -115.27,73.58 ; 0.39,-127.26 ccw(c0.53,6.6) 0.49,-127.26 ; 0.38,-53.94 -8.06,-79.86 ccw(c-6.1,-144.7) -51.97,-98.83 -54.15,-101.07 -68.3,-120.33 -91.34,-160.14 ccw(c-24.9,-198.53) -27.85,-275.21 ccw(c-27.62,-269.31) -26.78,-275.16 26.85,-267.42 cw(c27.69,-273.26) 27.54,-267.36 ccw(c25.84,-198.55) 32.44,-267.06 ccw(c0.52,6.6) 36.09,-266.61 ccw(c25.84,-198.55) 85.45,-164.13 62.41,-124.22 ccw(c2.85,-154.8) 0.5,-87.89 ccw(c-1.89,-154.8) -61.43,-124.19 -84.45,-164.1 ccw(c-24.9,-198.53) -35.24,-266.54 ccw(c0.52,6.6) -31.56,-266.99 -26.9,-267.27 ccw(c-26.55,-261.37) -25.71,-267.22 27.61,-259.52 cw(c28.45,-265.37) 28.22,-259.47 ccw(c25.84,-198.55) 30.82,-259.31 ccw(c0.52,6.6) 35.78,-258.7 ccw(c25.84,-198.55) 78.64,-168.06 52.35,-122.54 ccw(c2.85,-154.8) 0.5,-95.76 ccw(c-1.89,-154.8) -51.37,-122.51 -77.68,-168.02 ccw(c-24.9,-198.53) -34.87,-258.68 ccw(c0.52,6.6) -29.91,-259.29 -27.61,-259.43 ccw(c-27.26,-253.53) -26.42,-259.38 27.02,-251.66 cw(c27.86,-257.51) 27.66,-251.61 ccw(c25.84,-198.55) 30.6,-251.42 ccw(c0.52,6.6) 34.07,-251 ccw(c25.84,-198.55) 71.82,-172 45.58,-126.56 ccw(c2.85,-154.8) 0.5,-103.64 ccw(c-1.89,-154.8) -44.6,-126.54 -70.71,-172.03 ccw(c-24.9,-198.53) -33.35,-250.78 ccw(c0.52,6.6) -29.76,-251.23 ccw(c-24.9,-198.53) -27.02,-251.41 ccw(c-26.78,-245.51) -25.94,-251.35 26.35,-243.81 cw(c27.2,-249.65) 27.04,-243.75 ccw(c25.84,-198.55) 30.31,-243.54 ccw(c0.52,6.6) 32.44,-243.28 ccw(c25.84,-198.55) 65,-175.94 38.82,-130.59 ccw(c2.85,-154.8) 0.49,-111.51 ccw(c-1.89,-154.8) -37.84,-130.57 -63.82,-176 ccw(c-24.9,-198.53) -31.79,-242.97 ccw(c0.52,6.6) -29.48,-243.26 ccw(c-24.9,-198.53) -26.37,-243.47 ccw(c-26.17,-237.57) -25.33,-243.42 26.59,-235.92 cw(c27.43,-241.77) 27.22,-235.87 ccw(c25.84,-198.55) 29.34,-235.73 ccw(c0.52,6.6) 31.49,-235.46 ccw(c25.84,-198.55) 58.18,-179.87 32.05,-134.62 ccw(c2.85,-154.8) 0.49,-119.38 ccw(c-1.89,-154.8) -31.08,-134.6 -57.25,-179.83 ccw(c-24.9,-198.53) -30.54,-235.47 ccw(c0.52,6.6) -28.41,-235.74 -26.62,-235.85 ccw(c-26.25,-229.95) -25.36,-235.79 25.15,-228.08 cw(c26.05,-233.92) 26.01,-228.02 ccw(c25.84,-198.55) 28.44,-227.9 ccw(c0.52,6.6) 30.45,-227.65 ccw(c25.84,-198.55) 51.36,-183.81 25.29,-138.66 ccw(c2.85,-154.8) 0.49,-127.26 ; 0.38,66.97 0.48,67.07 0.48,88.17 -2.75,92.04 -19.97,95.17 -22.97,96.18 -26.08,97.22 -30.99,99.18 -36.27,101.36 -44.04,106.22 -47.23,108.43 -50.25,111.37 -53.26,113.47 -58.19,118.5 -68.16,133.53 -91.21,173.34 cw(c-24.76,211.73) -27.71,288.41 cw(c-27.49,282.51) -26.64,288.36 26.98,280.62 ccw(c27.83,286.46) 27.68,280.56 cw(c25.97,211.75) 32.58,280.26 cw(c0.66,6.6) 36.23,279.81 cw(c25.97,211.75) 85.59,177.33 62.54,137.42 cw(c2.99,168) 0.64,101.09 cw(c-1.75,168) -61.29,137.39 -84.31,177.3 cw(c-24.76,211.73) -35.11,279.74 cw(c0.66,6.6) -31.43,280.19 -26.77,280.47 cw(c-26.42,274.57) -25.58,280.42 27.74,272.72 ccw(c28.59,278.57) 28.36,272.67 cw(c25.97,211.75) 30.95,272.51 cw(c0.66,6.6) 35.92,271.9 cw(c25.97,211.75) 78.77,181.26 52.49,135.74 cw(c2.99,168) 0.63,108.96 cw(c-1.75,168) -51.24,135.71 -77.54,181.22 cw(c-24.76,211.73) -34.74,271.88 cw(c0.66,6.6) -29.77,272.49 -27.47,272.63 cw(c-27.13,266.73) -26.28,272.58 27.16,264.86 ccw(c28,270.71) 27.8,264.81 cw(c25.97,211.75) 30.74,264.62 cw(c0.66,6.6) 34.21,264.2 cw(c25.97,211.75) 71.95,185.2 45.72,139.76 cw(c2.99,168) 0.63,116.84 cw(c-1.75,168) -44.47,139.74 -70.57,185.23 cw(c-24.76,211.73) -33.21,263.98 cw(c0.66,6.6) -29.62,264.43 cw(c-24.76,211.73) -26.88,264.61 cw(c-26.65,258.71) -25.8,264.55 26.49,257.01 ccw(c27.33,262.85) 27.18,256.95 cw(c25.97,211.75) 30.45,256.74 cw(c0.66,6.6) 32.57,256.48 cw(c25.97,211.75) 65.13,189.14 38.95,143.79 cw(c2.99,168) 0.63,124.71 cw(c-1.75,168) -37.7,143.77 -63.68,189.2 cw(c-24.76,211.73) -31.66,256.17 cw(c0.66,6.6) -29.34,256.46 cw(c-24.76,211.73) -26.23,256.67 cw(c-26.04,250.77) -25.19,256.62 26.73,249.12 ccw(c27.57,254.97) 27.35,249.07 cw(c25.97,211.75) 29.47,248.93 cw(c0.66,6.6) 31.62,248.66 cw(c25.97,211.75) 58.32,193.07 32.19,147.82 cw(c2.99,168) 0.63,132.58 cw(c-1.75,168) -30.94,147.8 -57.12,193.03 cw(c-24.76,211.73) -30.4,248.67 cw(c0.66,6.6) -28.27,248.94 -26.48,249.05 cw(c-26.12,243.15) -25.23,248.99 25.29,241.28 ccw(c26.18,247.12) 26.15,241.22 cw(c25.97,211.75) 28.58,241.1 cw(c0.66,6.6) 30.58,240.86 cw(c25.97,211.75) 51.5,197.01 25.43,151.86 cw(c2.99,168) 0.63,140.46 ; 0.47,-195.3 -25.62,-204.39 cw(c-24.9,-198.53) -30.01,-195.58 -5.3,-152.83 cw(c-1.89,-154.8) -1.83,-150.86 ccw(c0.52,6.6) 0.48,-150.88 ccw(c0.52,6.6) 2.8,-150.86 cw(c2.85,-154.8) 6.26,-152.83 30.95,-195.59 cw(c25.84,-198.55) 26.56,-204.41 -25.43,-212.34 cw(c0.45,6.63) -26.12,-212.26 cw(c-24.9,-198.53) -36.83,-191.64 -10.97,-146.97 cw(c-1.89,-154.8) 0.49,-143.04 cw(c2.85,-154.8) 11.93,-146.97 37.74,-191.67 cw(c25.84,-198.55) 29.64,-211.76 cw(c28.01,-206.08) 28.9,-211.92 -24.08,-220 cw(c-24.97,-214.16) -24.99,-220.07 cw(c-24.9,-198.53) -43.54,-187.75 -17.73,-142.53 cw(c-1.89,-154.8) 0.45,-134.9 cw(c2.85,-154.8) 18.74,-142.58 44.75,-187.63 cw(c25.84,-198.55) 25.74,-220.39 ccw(c25.71,-226.29) 24.82,-220.45 -24.23,-227.94 cw(c-25.12,-222.1) -25.18,-228 cw(c-24.9,-198.53) -27.52,-227.89 cw(c0.52,6.6) -29.52,-227.64 cw(c-24.9,-198.53) -50.41,-183.78 -24.32,-138.64 cw(c-1.89,-154.8) 0.49,-127.26 ; 0.52,140.46 cw(c0.66,6.6) 0.62,140.46 ; 0.59,-127.26 cw(c0.52,6.6) 0.49,-127.26 ; 0.73,140.46 ccw(c0.66,6.6) 0.62,140.46 ; 1.08,185.92 22.22,193.98 31.09,208.79 ccw(c25.97,211.75) 26.7,217.61 -25.29,225.54 ccw(c0.59,6.57) -25.98,225.46 ccw(c-24.76,211.73) -36.69,204.84 -10.84,160.17 ccw(c-1.75,168) 0.63,156.24 ccw(c2.99,168) 12.07,160.17 37.88,204.87 ccw(c25.97,211.75) 29.77,224.96 ccw(c28.14,219.28) 29.03,225.12 26.94,225.44 ; 26.2,-212.33 ccw(c0.45,6.63) 26.81,-212.26 ; 26.71,-243.76 26.94,-243.74 ; 26.84,256.96 27.08,256.94 ; 116.27,-60.47 ccw(c0.38,6.52) 116.32,-60.38 ; 116.37,-60.29 cw(c0.38,6.52) 116.32,-60.38 ; 116.44,73.6 cw(c0.59,6.55) 116.49,73.51 ; 116.55,73.42 ccw(c0.59,6.55) 116.49,73.51 ; 140.25,-228.31 ccw(c123.86,-211.93) 147.03,-211.93 147.03,-207.83 101.36,-162.16 cw(c107.19,-156.33) 98.95,-156.33 75.96,-116.5 cw(c138.99,-76.2) 75.4,-36.77 cw(c141.36,-72.09) 144.71,2.66 190.72,2.71 cw(c190.74,-74.03) 258.62,-109.81 cw(c253.4,-107.06) 258.04,-110.71 224.53,-153.28 ccw(c229.17,-156.94) 224.13,-153.86 cw(c165.38,-117.98) 221.42,-157.95 cw(c0.38,6.52) 219.21,-160.89 cw(c165.38,-117.98) 105.77,-152.39 82.73,-112.48 cw(c138.99,-76.2) 82.23,-40.71 cw(c141.36,-72.09) 144.62,-5.22 190.7,-5.24 cw(c190.74,-74.03) 254.81,-99.07 cw(c0.38,6.52) 253.36,-102.49 251.27,-106.66 cw(c245.99,-104.02) 250.63,-107.67 217.31,-150 ccw(c221.95,-153.65) 216.95,-150.5 cw(c165.38,-117.98) 215.52,-152.67 cw(c0.38,6.52) 212.5,-156.66 cw(c165.38,-117.98) 112.59,-148.46 86.3,-102.93 cw(c138.99,-76.2) 89.04,-44.64 cw(c141.36,-72.09) 138.14,-13.09 190.71,-13.06 cw(c190.74,-74.03) 247.82,-95.46 cw(c0.38,6.52) 245.87,-100.07 244.83,-102.13 cw(c239.55,-99.48) 244.19,-103.13 210.79,-145.56 ccw(c215.44,-149.21) 210.43,-146.09 cw(c165.38,-117.98) 208.8,-148.54 cw(c0.38,6.52) 206.69,-151.33 cw(c165.38,-117.98) 119.41,-144.52 93.17,-99.08 cw(c138.99,-76.2) 95.86,-48.57 cw(c141.36,-72.09) 138.25,-20.97 190.69,-21.1 cw(c190.74,-74.03) 240.22,-92.84 cw(c0.38,6.52) 238.81,-96.17 cw(c190.74,-74.03) 237.6,-98.63 cw(c232.37,-95.89) 237.01,-99.54 204.32,-141.05 ccw(c208.96,-144.71) 203.93,-141.62 cw(c165.38,-117.98) 202.12,-144.35 cw(c0.38,6.52) 200.82,-146.06 cw(c165.38,-117.98) 126.22,-140.59 100.04,-95.24 cw(c138.99,-76.2) 102.68,-52.51 cw(c141.36,-72.09) 138.35,-28.84 190.69,-29.06 cw(c190.74,-74.03) 232.68,-90.28 cw(c0.38,6.52) 231.77,-92.43 cw(c190.74,-74.03) 230.39,-95.23 cw(c225.19,-92.44) 229.83,-96.1 197.38,-137.31 ccw(c202.02,-140.97) 197.02,-137.83 cw(c165.38,-117.98) 195.84,-139.59 cw(c0.38,6.52) 194.53,-141.32 cw(c165.38,-117.98) 133.04,-136.65 106.92,-91.39 cw(c138.99,-76.2) 109.5,-56.44 cw(c141.36,-72.09) 138.47,-36.71 190.72,-36.66 cw(c190.74,-74.03) 225.55,-87.61 cw(c0.38,6.52) 224.72,-89.59 223.92,-91.2 cw(c218.63,-88.56) 223.24,-92.26 191.31,-132.15 ccw(c195.92,-135.84) 190.82,-132.86 cw(c165.38,-117.98) 189.5,-134.91 cw(c0.38,6.52) 188.29,-136.52 cw(c165.38,-117.98) 139.86,-132.71 113.79,-87.56 cw(c138.99,-76.2) 116.32,-60.38 ; 155.47,-83.51 151.88,-105.84 160.27,-120.93 ccw(c165.38,-117.98) 170.1,-121.53 202.96,-80.47 ccw(c0.39,6.6) 203.24,-79.83 ccw(c190.74,-74.03) 190.73,-60.25 139.12,-60.31 ccw(c141.36,-72.09) 129.99,-68.27 ccw(c138.99,-76.2) 127.67,-80.15 153.48,-124.85 ccw(c165.38,-117.98) 174.92,-127.87 ccw(c170.83,-123.62) 175.44,-127.31 176.76,-125.66 ; 178.2,110.26 ccw(c165.76,122.7) 183.35,122.7 183.35,123.68 ccw(c162.4,123.68) 177.22,138.5 ccw(c0.52,6.6) 176.8,139.05 ccw(c165.53,131.13) 153.59,138.02 127.83,93.29 ccw(c139.16,89.34) 130.17,81.4 ccw(c141.53,85.23) 139.29,73.46 190.91,73.46 ccw(c190.91,87.2) 204.25,90.52 ccw(c198.52,89.09) 204.02,91.24 203.25,93.21 ; 203.97,-141.53 204.1,-141.33 ; 230.49,109.05 230.6,108.84 ; 273.82,10.38 ccw(c245.36,-18.08) 245.36,22.17 233.03,22.17 cw(c204.82,50.38) 204.82,10.49 190.91,10.49 144.92,10.49 cw(c141.53,85.23) 75.59,49.88 cw(c139.16,89.34) 76.1,129.61 99.06,169.48 cw(c165.53,131.13) 230.46,172.03 cw(c225.46,168.88) 230.94,171.08 251.05,120.77 ccw(c256.54,122.96) 251.35,120.13 cw(c190.91,87.2) 253.54,115.74 cw(c0.59,6.55) 254.98,112.36 cw(c190.91,87.2) 190.91,18.37 144.82,18.37 cw(c141.53,85.23) 82.41,53.82 cw(c139.16,89.34) 82.88,125.6 105.93,165.49 cw(c165.53,131.13) 219.25,174.09 cw(c0.59,6.55) 221.48,171.14 224.05,167.24 cw(c219.12,163.99) 224.6,166.18 244.6,116.16 ccw(c250.08,118.35) 244.86,115.6 cw(c190.91,87.2) 246.02,113.27 cw(c0.59,6.55) 247.97,108.66 cw(c190.91,87.2) 190.91,26.24 138.34,26.24 cw(c141.53,85.23) 89.22,57.75 cw(c139.16,89.34) 86.45,116.05 112.71,161.59 cw(c165.53,131.13) 212.63,169.85 cw(c0.59,6.55) 215.64,165.85 216.91,163.93 cw(c211.98,160.68) 217.46,162.87 237.5,112.74 ccw(c242.98,114.93) 237.77,112.15 cw(c190.91,87.2) 239.08,109.52 cw(c0.59,6.55) 240.45,106.29 cw(c190.91,87.2) 190.91,34.11 138.44,34.11 cw(c141.53,85.23) 96.04,61.69 cw(c139.16,89.34) 93.32,112.2 119.67,157.56 cw(c165.53,131.13) 206.55,164.58 cw(c0.59,6.55) 208.73,161.69 cw(c165.53,131.13) 210.26,159.41 cw(c205.27,156.25) 210.75,158.45 230.36,109.39 ccw(c235.85,111.58) 230.65,108.76 cw(c190.91,87.2) 232.11,105.83 cw(c0.59,6.55) 232.95,103.85 cw(c190.91,87.2) 190.91,41.98 138.54,41.98 cw(c141.53,85.23) 102.86,65.63 cw(c139.16,89.34) 100.2,108.36 126.55,153.58 cw(c165.53,131.13) 200.57,159.33 cw(c0.59,6.55) 201.97,157.47 cw(c165.53,131.13) 203.71,154.88 cw(c198.7,151.76) 204.18,153.95 223.65,105.24 ccw(c229.13,107.43) 223.91,104.67 cw(c190.91,87.2) 224.85,102.76 cw(c0.59,6.55) 225.7,100.77 cw(c190.91,87.2) 190.91,49.86 138.65,49.86 cw(c141.53,85.23) 109.68,69.57 cw(c139.16,89.34) 107.07,104.52 133.16,149.8 cw(c165.53,131.13) 194.7,154.49 cw(c0.59,6.55) 195.99,152.78 196.98,151.28 cw(c192.06,148.02) 197.56,150.17 216.15,102.56 ccw(c221.65,104.71) 216.52,101.79 cw(c190.91,87.2) 217.63,99.62 cw(c0.59,6.55) 218.42,97.76 cw(c190.91,87.2) 190.91,57.73 138.77,57.73 cw(c141.53,85.23) 116.49,73.51 ; -202.22,-80.01 ccw(c0.53,6.6) -201.97,-80.58 ; -202.2,-80.01 -201.97,-80.58 ; -201.97,-80.58 -183.48,-127.96 ccw(c-177.98,-125.81) -183.08,-128.78 ccw(c-164.48,-117.93) -145.82,-128.68 -119.56,-83.73 ccw(c-138.1,-76.14) -122.04,-64.16 ccw(c-140.48,-72.03) -137.84,-52.16 -189.86,-52.16 ccw(c-189.86,-74) -208.72,-85.01 cw(c-213.82,-87.99) -208.32,-85.84 -190.27,-132.06 ccw(c-184.77,-129.91) -189.86,-132.91 ccw(c-164.48,-117.93) -188.59,-134.88 ccw(c0.46,6.65) -187.37,-136.49 ccw(c-164.48,-117.93) -138.95,-132.66 -112.9,-87.49 ccw(c-138.1,-76.14) -115.44,-60.31 ; -176.09,138.38 cw(c0.66,6.6) -175.72,138.87 ; -176.09,138.38 -207.87,98.68 ccw(c-203.26,94.99) -208.39,97.92 ccw(c-189.69,87.23) -189.67,65.7 -137.61,65.43 ccw(c-140.31,85.29) -121.91,77.36 ccw(c-137.94,89.4) -119.41,97.05 -145.42,142.1 ccw(c-164.33,131.18) -183.3,142.01 cw(c-188.43,144.94) -183.82,141.25 -214.82,102.51 ccw(c-210.21,98.82) -215.35,101.72 ccw(c-189.69,87.23) -216.42,99.64 ccw(c0.67,6.68) -217.21,97.78 ccw(c-189.69,87.23) -189.68,57.76 -137.53,57.79 ccw(c-140.31,85.29) -115.27,73.58 ; -176.09,138.38 -175.71,138.86 ; 0.62,140.46 cw(c-1.75,168) -24.18,151.84 -50.28,196.98 cw(c-24.76,211.73) -29.39,240.84 cw(c0.66,6.6) -27.38,241.09 cw(c-24.76,211.73) -25.04,241.2 cw(c-24.99,235.3) -24.1,241.14 24.95,233.65 ccw(c25.84,239.49) 25.87,233.59 cw(c25.97,211.75) 44.89,200.83 18.88,155.78 cw(c2.99,168) 0.58,148.1 cw(c-1.75,168) -17.6,155.73 -43.4,200.95 cw(c-24.76,211.73) -24.86,233.27 cw(c-24.83,227.36) -23.94,233.2 26.34,225.53 ; 26.34,225.53 cw(c0.59,6.57) 26.95,225.46 ; 26.34,225.53 26.94,225.44 ; 116.32,-60.38 cw(c141.36,-72.09) 138.58,-44.59 190.73,-44.56 cw(c190.74,-74.03) 218.26,-84.58 cw(c0.38,6.52) 217.47,-86.44 cw(c190.74,-74.03) 216.4,-88.52 cw(c211.26,-85.62) 215.87,-89.31 184.87,-128.05 ccw(c189.48,-131.74) 184.35,-128.81 cw(c165.38,-117.98) 146.47,-128.9 120.46,-83.85 cw(c138.99,-76.2) 122.96,-64.16 cw(c141.36,-72.09) 138.66,-52.23 190.72,-52.5 cw(c190.74,-74.03) 209.44,-84.72 cw(c204.31,-81.78) 208.92,-85.48 177.14,-125.18 ; 116.49,73.51 cw(c139.16,89.34) 113.95,100.69 140,145.86 cw(c165.53,131.13) 188.42,149.69 cw(c0.59,6.55) 189.64,148.08 cw(c165.53,131.13) 190.91,146.11 cw(c185.82,143.11) 191.32,145.26 209.37,99.04 ccw(c214.87,101.19) 209.77,98.21 cw(c190.91,87.2) 190.91,65.36 138.89,65.36 cw(c141.53,85.23) 123.09,77.37 cw(c139.16,89.34) 120.61,96.93 146.87,141.88 cw(c165.53,131.13) 184.13,141.98 cw(c179.03,139.01) 184.53,141.16 203.02,93.78 ; 176.77,-125.67 ccw(c0.39,6.6) 177.14,-125.18 ; 176.76,-125.66 177.14,-125.18 ; 203.02,93.78 cw(c0.52,6.6) 203.27,93.21 ; 203.02,93.78 203.25,93.21
  lines w10: 0.38,-53.94 cw(c0.38,6.52) 0.38,66.97
Mechanical 1:
  circle w3.94: c-154.56,96.62 r5.91
  circle w3.94: c-174.37,107.48 r5.91
  circle w3.94: c0.44,208.5 r5.91
  circle w3.94: c155.62,96.63 r5.91
  circle w3.94: c175.42,107.48 r5.91
  circle w3.94: c1.08,185.92 r5.91
  circle w3.94: c-0.03,-172.72 r5.91
  circle w3.94: c-174.37,-94.28 r5.91
  circle w3.94: c-154.57,-83.43 r5.91
  circle w3.94: c0.61,-195.3 r5.91
  circle w3.94: c175.42,-94.28 r5.91
  circle w3.94: c155.61,-83.42 r5.91
  lines w3.94: -314.44,6.6 cw(c0.52,6.6) -272.2,164.15 cw(c0.52,6.6) -216.97,234.41 ccw(c-314.44,358.1) -156.96,358.1 158.01,358.1 ccw(c315.49,358.1) 218.02,234.41 cw(c0.53,6.6) 273.33,164.01 cw(c0.53,6.6) 315.49,6.43 ; -314.44,6.77 ccw(c0.52,6.6) -272.28,-150.81 ccw(c0.52,6.6) -156.95,-266.16 ; -157.1,-266.08 ccw(c0.52,6.6) 0.44,-308.36 ccw(c0.52,6.6) 158.01,-266.16 ; 157.86,-266.25 ccw(c0.53,6.6) 273.25,-150.95 ccw(c0.53,6.6) 315.49,6.6 ; -38.85,6.62 ccw(c0.52,6.6) -33.58,-13.08 ; -38.85,6.6 cw(c0.52,6.6) -33.57,26.3 ; -38.85,6.62 ccw(c0.52,6.6) -33.58,-13.08 ; -38.85,6.6 cw(c0.52,6.6) -33.57,26.3 ; -33.58,-13.08 ccw(c0.52,6.6) -19.16,-27.5 cw(c0.52,6.6) -33.58,-13.08 ; -33.57,26.3 cw(c0.52,6.6) -19.14,40.71 ; -33.57,26.3 cw(c0.52,6.6) -19.14,40.71 ; -19.16,40.7 cw(c0.53,6.6) 0.54,45.97 ; -19.16,40.7 cw(c0.53,6.6) 0.54,45.97 ; 0.51,-32.77 ccw(c0.52,6.6) 20.21,-27.5 ; 0.51,-32.77 cw(c0.53,6.6) -19.18,-27.49 ccw(c0.53,6.6) 0.51,-32.77 ; 0.51,-32.77 ccw(c0.52,6.6) 20.21,-27.5 ; 0.54,45.97 cw(c0.53,6.6) 20.23,40.69 ccw(c0.53,6.6) 0.54,45.97 ; 20.19,-27.51 ccw(c0.53,6.6) 34.62,-13.1 ; 20.19,-27.51 ccw(c0.53,6.6) 34.62,-13.1 ; 34.62,-13.1 ccw(c0.53,6.6) 39.9,6.6 ; 34.62,-13.1 ccw(c0.53,6.6) 39.9,6.6 ; 34.63,26.28 cw(c0.53,6.6) 39.9,6.58 ; 34.63,26.28 ccw(c0.53,6.6) 20.21,40.7 cw(c0.53,6.6) 34.63,26.28 ; 34.63,26.28 cw(c0.53,6.6) 39.9,6.58